# Altium integrated library Renesas Microcontroller H8S.IntLib: 670 symbols (part 37 of 70)
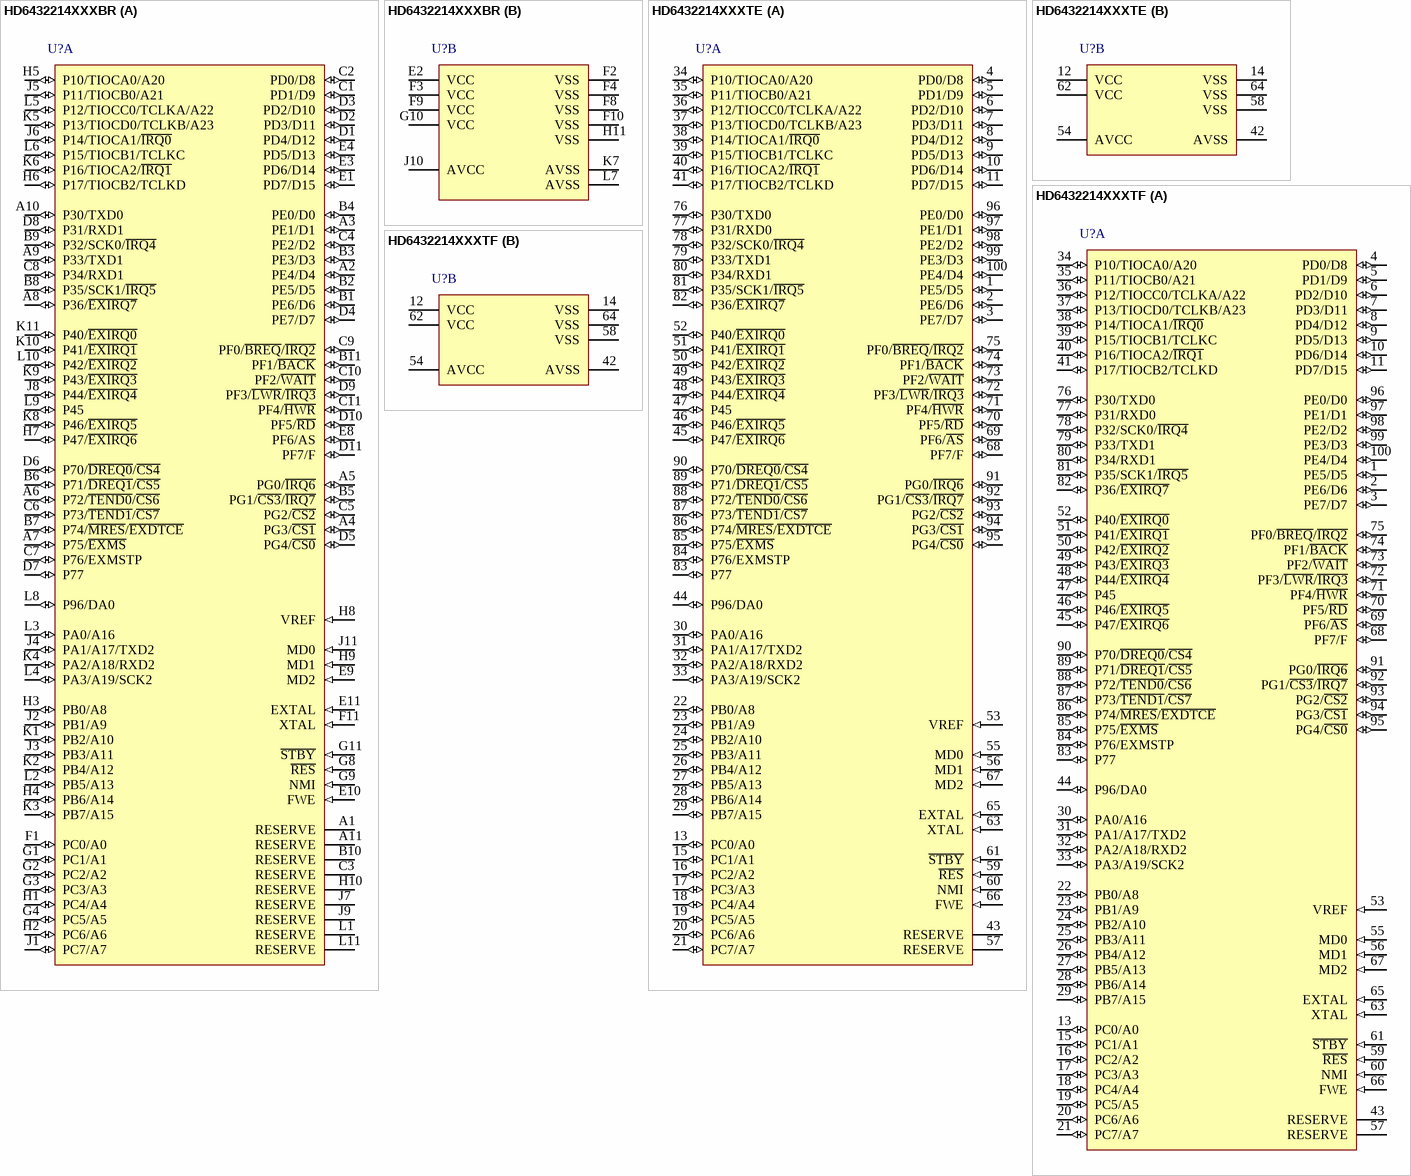
[diagram p263: symbols HD6432214XXXBR to HD6432214XXXTF]

## HD6432214XXXTE
designator U?
Mask ROM H8S/2200 Series, 2214 Group MCU, 128K ROM, 12K RAM, TFP-100B Pkg; Published: 28-Aug-2009; DatasheetVersion: Rev.4.00, Sep-2008; PackageVersion: Sep-2005; PackageReference: PTQP0100KA-A; Publisher: Altium Limited; PackageDescription: 100-Pin Plastic Thin Quad Flat Pack, 14 x 14 x 1.0 mm Body, 0.5 mm Pitch; Code_JEITA: P-TQFP100-14x14-0.50; ComponentLink1Description: Manufacturer Link; ComponentLink1URL: http://sg.renesas.com/fmwk.jsp?cnt=h8s_family_landing.jsp&fp=/products/mpumcu/h8s_family/; ComponentLink2Description: Datasheet; ComponentLink2URL: http://documentation.renesas.com/eng/products/mpumcu/rej09b0189_h8s2214.pdf; ComponentLink3Description: Packaging Specification; ComponentLink3URL: http://sg.renesas.com/media/products/common_info/package/pdf/ic/code/ptqp0100ka_a.pdf
footprint PTQP0100KA-A_N (Thin QFP, 100-Leads, Body 14x14mm, Pitch 0.5mm, IPC Medium Density)
footprint PTQP0100KA-A_L (Thin QFP, 100-Leads, Body 14x14mm, Pitch 0.5mm, IPC High Density)
footprint PTQP0100KA-A_M (Thin QFP, 100-Leads, Body 14x14mm, Pitch 0.5mm, IPC Low Density)
part A pins: 1 PE5/D5 (io), 2 PE6/D6 (io), 3 PE7/D7 (io), 4 PD0/D8 (io), 5 PD1/D9 (io), 6 PD2/D10 (io), 7 PD3/D11 (io), 8 PD4/D12 (io), 9 PD5/D13 (io), 10 PD6/D14 (io), 11 PD7/D15 (io), 13 PC0/A0 (io), 15 PC1/A1 (io), 16 PC2/A2 (io), 17 PC3/A3 (io), 18 PC4/A4 (io), 19 PC5/A5 (io), 20 PC6/A6 (io), 21 PC7/A7 (io), 22 PB0/A8 (io), 23 PB1/A9 (io), 24 PB2/A10 (io), 25 PB3/A11 (io), 26 PB4/A12 (io), 27 PB5/A13 (io), 28 PB6/A14 (io), 29 PB7/A15 (io), 30 PA0/A16 (io), 31 PA1/A17/TXD2 (io), 32 PA2/A18/RXD2 (io), 33 PA3/A19/SCK2 (io), 34 P10/TIOCA0/A20 (io), 35 P11/TIOCB0/A21 (io), 36 P12/TIOCC0/TCLKA/A22 (io), 37 P13/TIOCD0/TCLKB/A23 (io), 38 P14/TIOCA1/~{IRQ0} (io), 39 P15/TIOCB1/TCLKC (io), 40 P16/TIOCA2/~{IRQ1} (io), 41 P17/TIOCB2/TCLKD (io), 43 RESERVE, 44 P96/DA0 (io), 45 P47/~{EXIRQ6} (io), 46 P46/~{EXIRQ5} (io), 47 P45 (io), 48 P44/~{EXIRQ4} (io), 49 P43/~{EXIRQ3} (io), 50 P42/~{EXIRQ2} (io), 51 P41/~{EXIRQ1} (io), 52 P40/~{EXIRQ0} (io), 53 VREF (in), 55 MD0 (in), 56 MD1 (in), 57 RESERVE, 59 ~{RES} (in), 60 NMI (in), 61 ~{STBY} (in), 63 XTAL (in), 65 EXTAL (in), 66 FWE (in), 67 MD2 (in), 68 PF7/F (io), 69 PF6/~{AS} (io), 70 PF5/~{RD} (io), 71 PF4/~{HWR} (io), 72 PF3/~{LWR}/~{IRQ3} (io), 73 PF2/~{WAIT} (io), 74 PF1/~{BACK} (io), 75 PF0/~{BREQ}/~{IRQ2} (io), 76 P30/TXD0 (io), 77 P31/RXD0 (io), 78 P32/SCK0/~{IRQ4} (io), 79 P33/TXD1 (io), 80 P34/RXD1 (io), 81 P35/SCK1/~{IRQ5} (io), 82 P36/~{EXIRQ7} (io), 83 P77 (io), 84 P76/EXMSTP (io), 85 P75/~{EXMS} (io), 86 P74/~{MRES}/~{EXDTCE} (io), 87 P73/~{TEND1}/~{CS7} (io), 88 P72/~{TEND0}/~{CS6} (io), 89 P71/~{DREQ1}/~{CS5} (io), 90 P70/~{DREQ0}/~{CS4} (io), 91 PG0/~{IRQ6} (io), 92 PG1/~{CS3}/~{IRQ7} (io), 93 PG2/~{CS2} (io), 94 PG3/~{CS1} (io), 95 PG4/~{CS0} (io), 96 PE0/D0 (io), 97 PE1/D1 (io), 98 PE2/D2 (io), 99 PE3/D3 (io), 100 PE4/D4 (io)
part B pins: 12 VCC (power), 14 VSS (power), 42 AVSS (power), 54 AVCC (power), 58 VSS (power), 62 VCC (power), 64 VSS (power)

## HD6432214XXXTF
designator U?
Mask ROM H8S/2200 Series, 2214 Group MCU, 128K ROM, 12K RAM, TFP-100G Pkg; Published: 28-Aug-2009; DatasheetVersion: Rev.4.00, Sep-2008; PackageVersion: Sep-2005; PackageReference: PTQP0100LC-A; Publisher: Altium Limited; PackageDescription: 100-Pin Plastic Thin QFP, 12 x 12 x 1.0 mm Body, 0.4 mm Pitch; Code_JEITA: P-TQFP100-12x12-0.40; ComponentLink1Description: Manufacturer Link; ComponentLink1URL: http://sg.renesas.com/fmwk.jsp?cnt=h8s_family_landing.jsp&fp=/products/mpumcu/h8s_family/; ComponentLink2Description: Datasheet; ComponentLink2URL: http://documentation.renesas.com/eng/products/mpumcu/rej09b0189_h8s2214.pdf; ComponentLink3Description: Packaging Specification; ComponentLink3URL: http://sg.renesas.com/media/products/common_info/package/pdf/ic/code/ptqp0100lc_a.pdf
footprint PTQP0100LC-A_N (Thin QFP, 100-Leads, Body 12x12mm, Pitch 0.4mm, IPC Medium Density)
footprint PTQP0100LC-A_L (Thin QFP, 100-Leads, Body 12x12mm, Pitch 0.4mm, IPC High Density)
footprint PTQP0100LC-A_M (Thin QFP, 100-Leads, Body 12x12mm, Pitch 0.4mm, IPC Low Density)
part A pins: 1 PE5/D5 (io), 2 PE6/D6 (io), 3 PE7/D7 (io), 4 PD0/D8 (io), 5 PD1/D9 (io), 6 PD2/D10 (io), 7 PD3/D11 (io), 8 PD4/D12 (io), 9 PD5/D13 (io), 10 PD6/D14 (io), 11 PD7/D15 (io), 13 PC0/A0 (io), 15 PC1/A1 (io), 16 PC2/A2 (io), 17 PC3/A3 (io), 18 PC4/A4 (io), 19 PC5/A5 (io), 20 PC6/A6 (io), 21 PC7/A7 (io), 22 PB0/A8 (io), 23 PB1/A9 (io), 24 PB2/A10 (io), 25 PB3/A11 (io), 26 PB4/A12 (io), 27 PB5/A13 (io), 28 PB6/A14 (io), 29 PB7/A15 (io), 30 PA0/A16 (io), 31 PA1/A17/TXD2 (io), 32 PA2/A18/RXD2 (io), 33 PA3/A19/SCK2 (io), 34 P10/TIOCA0/A20 (io), 35 P11/TIOCB0/A21 (io), 36 P12/TIOCC0/TCLKA/A22 (io), 37 P13/TIOCD0/TCLKB/A23 (io), 38 P14/TIOCA1/~{IRQ0} (io), 39 P15/TIOCB1/TCLKC (io), 40 P16/TIOCA2/~{IRQ1} (io), 41 P17/TIOCB2/TCLKD (io), 43 RESERVE, 44 P96/DA0 (io), 45 P47/~{EXIRQ6} (io), 46 P46/~{EXIRQ5} (io), 47 P45 (io), 48 P44/~{EXIRQ4} (io), 49 P43/~{EXIRQ3} (io), 50 P42/~{EXIRQ2} (io), 51 P41/~{EXIRQ1} (io), 52 P40/~{EXIRQ0} (io), 53 VREF (in), 55 MD0 (in), 56 MD1 (in), 57 RESERVE, 59 ~{RES} (in), 60 NMI (in), 61 ~{STBY} (in), 63 XTAL (in), 65 EXTAL (in), 66 FWE (in), 67 MD2 (in), 68 PF7/F (io), 69 PF6/~{AS} (io), 70 PF5/~{RD} (io), 71 PF4/~{HWR} (io), 72 PF3/~{LWR}/~{IRQ3} (io), 73 PF2/~{WAIT} (io), 74 PF1/~{BACK} (io), 75 PF0/~{BREQ}/~{IRQ2} (io), 76 P30/TXD0 (io), 77 P31/RXD0 (io), 78 P32/SCK0/~{IRQ4} (io), 79 P33/TXD1 (io), 80 P34/RXD1 (io), 81 P35/SCK1/~{IRQ5} (io), 82 P36/~{EXIRQ7} (io), 83 P77 (io), 84 P76/EXMSTP (io), 85 P75/~{EXMS} (io), 86 P74/~{MRES}/~{EXDTCE} (io), 87 P73/~{TEND1}/~{CS7} (io), 88 P72/~{TEND0}/~{CS6} (io), 89 P71/~{DREQ1}/~{CS5} (io), 90 P70/~{DREQ0}/~{CS4} (io), 91 PG0/~{IRQ6} (io), 92 PG1/~{CS3}/~{IRQ7} (io), 93 PG2/~{CS2} (io), 94 PG3/~{CS1} (io), 95 PG4/~{CS0} (io), 96 PE0/D0 (io), 97 PE1/D1 (io), 98 PE2/D2 (io), 99 PE3/D3 (io), 100 PE4/D4 (io)
part B pins: 12 VCC (power), 14 VSS (power), 42 AVSS (power), 54 AVCC (power), 58 VSS (power), 62 VCC (power), 64 VSS (power)

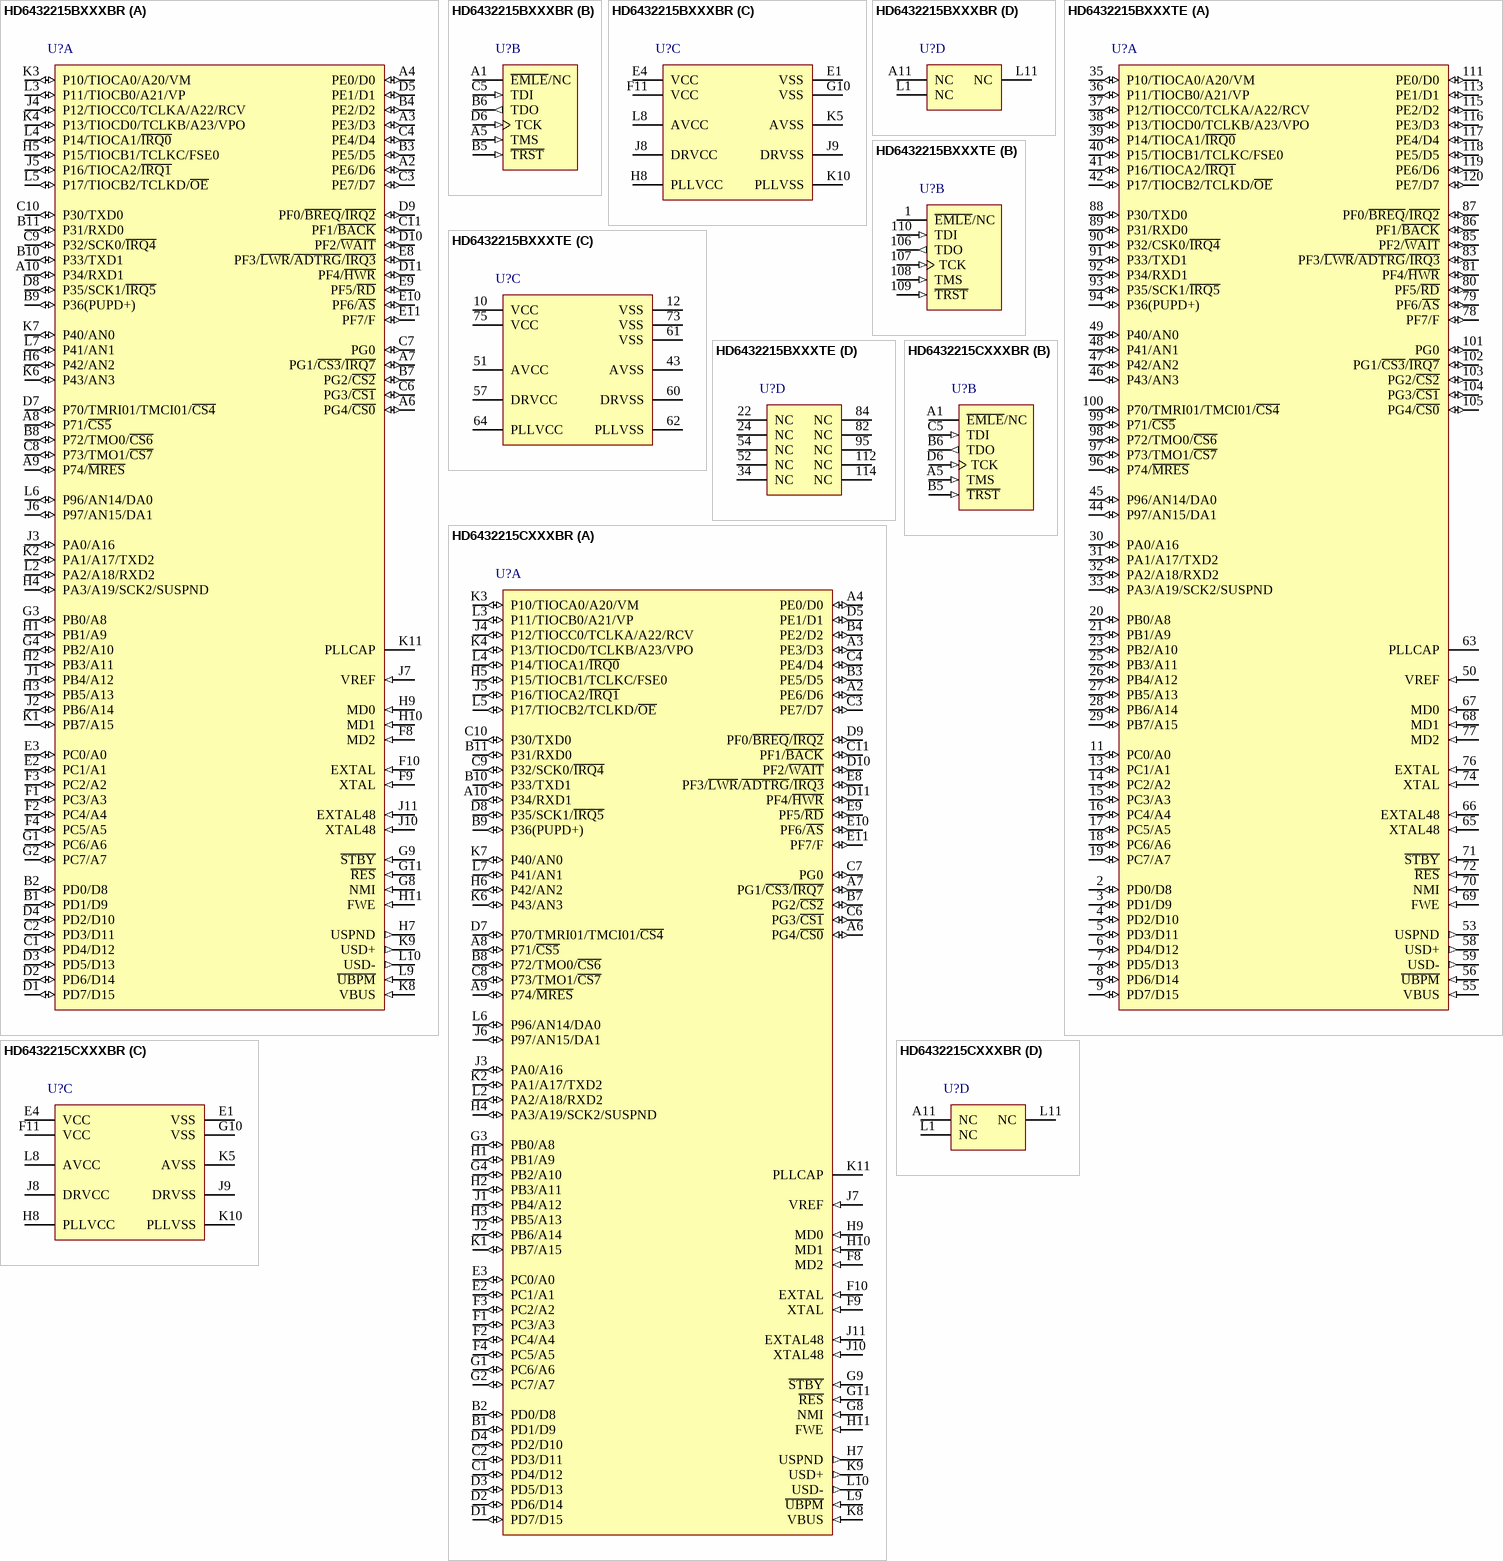
[diagram p127: symbols HD6432215BXXXBR to HD6432215CXXXBR]

## HD6432215BXXXBR
designator U?
Mask ROM H8S/2200 Series, 2215 Group MCU, 128K ROM, 16K RAM, BP-112 Pkg; Published: 28-Aug-2009; DatasheetVersion: Rev.8.00, Jan-2009; PackageVersion: Sep-2005; PackageReference: PLBG0112GA-A; Publisher: Altium Limited; PackageDescription: 112-Ball Plastic Low Profile Thin-Fine Pitch BGA, 10 x 10 mm Body, 0.8 mm Pitch; Code_JEITA: P-LFBGA112-10x10-0.80; ComponentLink1Description: Manufacturer Link; ComponentLink1URL: http://sg.renesas.com/fmwk.jsp?cnt=h8s_family_landing.jsp&fp=/products/mpumcu/h8s_family/; ComponentLink2Description: Datasheet; ComponentLink2URL: http://documentation.renesas.com/eng/products/mpumcu/rej09b0140_2215hm.pdf; ComponentLink3Description: Packaging Specification; ComponentLink3URL: http://sg.renesas.com/media/products/common_info/package/pdf/ic/code/plbg0112ga_a.pdf
footprint PLBG0112GA-A (BGA, 112-Leads, Body 10x10mm, Pitch 0.8mm)
part A pins: A2 PE6/D6 (io), A3 PE3/D3 (io), A4 PE0/D0 (io), A6 PG4/~{CS0} (io), A7 PG1/~{CS3}/~{IRQ7} (io), A8 P71/~{CS5} (io), A9 P74/~{MRES} (io), A10 P34/RXD1 (io), B1 PD1/D9 (io), B2 PD0/D8 (io), B3 PE5/D5 (io), B4 PE2/D2 (io), B7 PG2/~{CS2} (io), B8 P72/TMO0/~{CS6} (io), B9 P36(PUPD+) (io), B10 P33/TXD1 (io), B11 P31/RXD0 (io), C1 PD4/D12 (io), C2 PD3/D11 (io), C3 PE7/D7 (io), C4 PE4/D4 (io), C6 PG3/~{CS1} (io), C7 PG0 (io), C8 P73/TMO1/~{CS7} (io), C9 P32/SCK0/~{IRQ4} (io), C10 P30/TXD0 (io), C11 PF1/~{BACK} (io), D1 PD7/D15 (io), D2 PD6/D14 (io), D3 PD5/D13 (io), D4 PD2/D10 (io), D5 PE1/D1 (io), D7 P70/TMRI01/TMCI01/~{CS4} (io), D8 P35/SCK1/~{IRQ5} (io), D9 PF0/~{BREQ}/~{IRQ2} (io), D10 PF2/~{WAIT} (io), D11 PF4/~{HWR} (io), E2 PC1/A1 (io), E3 PC0/A0 (io), E8 PF3/~{LWR}/~{ADTRG}/~{IRQ3} (io), E9 PF5/~{RD} (io), E10 PF6/~{AS} (io), E11 PF7/F (io), F1 PC3/A3 (io), F2 PC4/A4 (io), F3 PC2/A2 (io), F4 PC5/A5 (io), F8 MD2 (in), F9 XTAL (in), F10 EXTAL (in), G1 PC6/A6 (io), G2 PC7/A7 (io), G3 PB0/A8 (io), G4 PB2/A10 (io), G8 NMI (in), G9 ~{STBY} (in), G11 ~{RES} (in), H1 PB1/A9 (io), H2 PB3/A11 (io), H3 PB5/A13 (io), H4 PA3/A19/SCK2/SUSPND (io), H5 P15/TIOCB1/TCLKC/FSE0 (io), H6 P42/AN2 (io), H7 USPND (out), H9 MD0 (in), H10 MD1 (in), H11 FWE (in), J1 PB4/A12 (io), J2 PB6/A14 (io), J3 PA0/A16 (io), J4 P12/TIOCC0/TCLKA/A22/RCV (io), J5 P16/TIOCA2/~{IRQ1} (io), J6 P97/AN15/DA1 (io), J7 VREF (in), J10 XTAL48 (in), J11 EXTAL48 (in), K1 PB7/A15 (io), K2 PA1/A17/TXD2 (io), K3 P10/TIOCA0/A20/VM (io), K4 P13/TIOCD0/TCLKB/A23/VPO (io), K6 P43/AN3 (io), K7 P40/AN0 (io), K8 VBUS (in), K9 USD+ (out), K11 PLLCAP, L2 PA2/A18/RXD2 (io), L3 P11/TIOCB0/A21/VP (io), L4 P14/TIOCA1/~{IRQ0} (io), L5 P17/TIOCB2/TCLKD/~{OE} (io), L6 P96/AN14/DA0 (io), L7 P41/AN1 (io), L9 ~{UBPM} (in), L10 USD- (out)
part B pins: A1 ~{EMLE}/NC, A5 TMS (in), B5 ~{TRST} (in), B6 TDO (out), C5 TDI (in), D6 TCK (in)
part C pins: E1 VSS (power), E4 VCC (power), F11 VCC (power), G10 VSS (power), H8 PLLVCC (power), J8 DRVCC (power), J9 DRVSS (power), K5 AVSS (power), K10 PLLVSS (power), L8 AVCC (power)
part D pins: A11 NC, L1 NC, L11 NC

## HD6432215BXXXTE
designator U?
Mask ROM H8S/2200 Series, 2215 Group MCU, 128K ROM, 16K RAM, TFP-120 Pkg; Published: 28-Aug-2009; DatasheetVersion: Rev.8.00, Jan-2009; PackageVersion: Sep-2005; PackageReference: PTQP0120LA-A; Publisher: Altium Limited; PackageDescription: 120-Pin Plastic Thin QFP, 14 x 14 x 1.0 mm Body, 0.4 mm Pitch; Code_JEITA: P-TQFP120-14x14-0.40; ComponentLink1Description: Manufacturer Link; ComponentLink1URL: http://sg.renesas.com/fmwk.jsp?cnt=h8s_family_landing.jsp&fp=/products/mpumcu/h8s_family/; ComponentLink2Description: Datasheet; ComponentLink2URL: http://documentation.renesas.com/eng/products/mpumcu/rej09b0140_2215hm.pdf; ComponentLink3Description: Packaging Specification; ComponentLink3URL: http://sg.renesas.com/media/products/common_info/package/pdf/ic/code/ptqp0120la_a.pdf
footprint PTQP0120LA-A_N (Thin QFP, 120-Leads, Body 14x14mm, Pitch 0.4mm, IPC Medium Density)
footprint PTQP0120LA-A_L (Thin QFP, 120-Leads, Body 14x14mm, Pitch 0.4mm, IPC High Density)
footprint PTQP0120LA-A_M (Thin QFP, 120-Leads, Body 14x14mm, Pitch 0.4mm, IPC Low Density)
part A pins: 2 PD0/D8 (io), 3 PD1/D9 (io), 4 PD2/D10 (io), 5 PD3/D11 (io), 6 PD4/D12 (io), 7 PD5/D13 (io), 8 PD6/D14 (io), 9 PD7/D15 (io), 11 PC0/A0 (io), 13 PC1/A1 (io), 14 PC2/A2 (io), 15 PC3/A3 (io), 16 PC4/A4 (io), 17 PC5/A5 (io), 18 PC6/A6 (io), 19 PC7/A7 (io), 20 PB0/A8 (io), 21 PB1/A9 (io), 23 PB2/A10 (io), 25 PB3/A11 (io), 26 PB4/A12 (io), 27 PB5/A13 (io), 28 PB6/A14 (io), 29 PB7/A15 (io), 30 PA0/A16 (io), 31 PA1/A17/TXD2 (io), 32 PA2/A18/RXD2 (io), 33 PA3/A19/SCK2/SUSPND (io), 35 P10/TIOCA0/A20/VM (io), 36 P11/TIOCB0/A21/VP (io), 37 P12/TIOCC0/TCLKA/A22/RCV (io), 38 P13/TIOCD0/TCLKB/A23/VPO (io), 39 P14/TIOCA1/~{IRQ0} (io), 40 P15/TIOCB1/TCLKC/FSE0 (io), 41 P16/TIOCA2/~{IRQ1} (io), 42 P17/TIOCB2/TCLKD/~{OE} (io), 44 P97/AN15/DA1 (io), 45 P96/AN14/DA0 (io), 46 P43/AN3 (io), 47 P42/AN2 (io), 48 P41/AN1 (io), 49 P40/AN0 (io), 50 VREF (in), 53 USPND (out), 55 VBUS (in), 56 ~{UBPM} (in), 58 USD+ (out), 59 USD- (out), 63 PLLCAP, 65 XTAL48 (in), 66 EXTAL48 (in), 67 MD0 (in), 68 MD1 (in), 69 FWE (in), 70 NMI (in), 71 ~{STBY} (in), 72 ~{RES} (in), 74 XTAL (in), 76 EXTAL (in), 77 MD2 (in), 78 PF7/F (io), 79 PF6/~{AS} (io), 80 PF5/~{RD} (io), 81 PF4/~{HWR} (io), 83 PF3/~{LWR}/~{ADTRG}/~{IRQ3} (io), 85 PF2/~{WAIT} (io), 86 PF1/~{BACK} (io), 87 PF0/~{BREQ}/~{IRQ2} (io), 88 P30/TXD0 (io), 89 P31/RXD0 (io), 90 P32/CSK0/~{IRQ4} (io), 91 P33/TXD1 (io), 92 P34/RXD1 (io), 93 P35/SCK1/~{IRQ5} (io), 94 P36(PUPD+) (io), 96 P74/~{MRES} (io), 97 P73/TMO1/~{CS7} (io), 98 P72/TMO0/~{CS6} (io), 99 P71/~{CS5} (io), 100 P70/TMRI01/TMCI01/~{CS4} (io), 101 PG0 (io), 102 PG1/~{CS3}/~{IRQ7} (io), 103 PG2/~{CS2} (io), 104 PG3/~{CS1} (io), 105 PG4/~{CS0} (io), 111 PE0/D0 (io), 113 PE1/D1 (io), 115 PE2/D2 (io), 116 PE3/D3 (io), 117 PE4/D4 (io), 118 PE5/D5 (io), 119 PE6/D6 (io), 120 PE7/D7 (io)
part B pins: 1 ~{EMLE}/NC, 106 TDO (out), 107 TCK (in), 108 TMS (in), 109 ~{TRST} (in), 110 TDI (in)
part C pins: 10 VCC (power), 12 VSS (power), 43 AVSS (power), 51 AVCC (power), 57 DRVCC (power), 60 DRVSS (power), 61 VSS (power), 62 PLLVSS (power), 64 PLLVCC (power), 73 VSS (power), 75 VCC (power)
part D pins: 22 NC, 24 NC, 34 NC, 52 NC, 54 NC, 82 NC, 84 NC, 95 NC, 112 NC, 114 NC

## HD6432215CXXXBR
designator U?
Mask ROM H8S/2200 Series, 2215 Group MCU, 64K ROM, 8K RAM, BP-112 Pkg; Published: 28-Aug-2009; DatasheetVersion: Rev.8.00, Jan-2009; PackageVersion: Sep-2005; PackageReference: PLBG0112GA-A; Publisher: Altium Limited; PackageDescription: 112-Ball Plastic Low Profile Thin-Fine Pitch BGA, 10 x 10 mm Body, 0.8 mm Pitch; Code_JEITA: P-LFBGA112-10x10-0.80; ComponentLink1Description: Manufacturer Link; ComponentLink1URL: http://sg.renesas.com/fmwk.jsp?cnt=h8s_family_landing.jsp&fp=/products/mpumcu/h8s_family/; ComponentLink2Description: Datasheet; ComponentLink2URL: http://documentation.renesas.com/eng/products/mpumcu/rej09b0140_2215hm.pdf; ComponentLink3Description: Packaging Specification; ComponentLink3URL: http://sg.renesas.com/media/products/common_info/package/pdf/ic/code/plbg0112ga_a.pdf
footprint PLBG0112GA-A (BGA, 112-Leads, Body 10x10mm, Pitch 0.8mm)
part A pins: A2 PE6/D6 (io), A3 PE3/D3 (io), A4 PE0/D0 (io), A6 PG4/~{CS0} (io), A7 PG1/~{CS3}/~{IRQ7} (io), A8 P71/~{CS5} (io), A9 P74/~{MRES} (io), A10 P34/RXD1 (io), B1 PD1/D9 (io), B2 PD0/D8 (io), B3 PE5/D5 (io), B4 PE2/D2 (io), B7 PG2/~{CS2} (io), B8 P72/TMO0/~{CS6} (io), B9 P36(PUPD+) (io), B10 P33/TXD1 (io), B11 P31/RXD0 (io), C1 PD4/D12 (io), C2 PD3/D11 (io), C3 PE7/D7 (io), C4 PE4/D4 (io), C6 PG3/~{CS1} (io), C7 PG0 (io), C8 P73/TMO1/~{CS7} (io), C9 P32/SCK0/~{IRQ4} (io), C10 P30/TXD0 (io), C11 PF1/~{BACK} (io), D1 PD7/D15 (io), D2 PD6/D14 (io), D3 PD5/D13 (io), D4 PD2/D10 (io), D5 PE1/D1 (io), D7 P70/TMRI01/TMCI01/~{CS4} (io), D8 P35/SCK1/~{IRQ5} (io), D9 PF0/~{BREQ}/~{IRQ2} (io), D10 PF2/~{WAIT} (io), D11 PF4/~{HWR} (io), E2 PC1/A1 (io), E3 PC0/A0 (io), E8 PF3/~{LWR}/~{ADTRG}/~{IRQ3} (io), E9 PF5/~{RD} (io), E10 PF6/~{AS} (io), E11 PF7/F (io), F1 PC3/A3 (io), F2 PC4/A4 (io), F3 PC2/A2 (io), F4 PC5/A5 (io), F8 MD2 (in), F9 XTAL (in), F10 EXTAL (in), G1 PC6/A6 (io), G2 PC7/A7 (io), G3 PB0/A8 (io), G4 PB2/A10 (io), G8 NMI (in), G9 ~{STBY} (in), G11 ~{RES} (in), H1 PB1/A9 (io), H2 PB3/A11 (io), H3 PB5/A13 (io), H4 PA3/A19/SCK2/SUSPND (io), H5 P15/TIOCB1/TCLKC/FSE0 (io), H6 P42/AN2 (io), H7 USPND (out), H9 MD0 (in), H10 MD1 (in), H11 FWE (in), J1 PB4/A12 (io), J2 PB6/A14 (io), J3 PA0/A16 (io), J4 P12/TIOCC0/TCLKA/A22/RCV (io), J5 P16/TIOCA2/~{IRQ1} (io), J6 P97/AN15/DA1 (io), J7 VREF (in), J10 XTAL48 (in), J11 EXTAL48 (in), K1 PB7/A15 (io), K2 PA1/A17/TXD2 (io), K3 P10/TIOCA0/A20/VM (io), K4 P13/TIOCD0/TCLKB/A23/VPO (io), K6 P43/AN3 (io), K7 P40/AN0 (io), K8 VBUS (in), K9 USD+ (out), K11 PLLCAP, L2 PA2/A18/RXD2 (io), L3 P11/TIOCB0/A21/VP (io), L4 P14/TIOCA1/~{IRQ0} (io), L5 P17/TIOCB2/TCLKD/~{OE} (io), L6 P96/AN14/DA0 (io), L7 P41/AN1 (io), L9 ~{UBPM} (in), L10 USD- (out)
part B pins: A1 ~{EMLE}/NC, A5 TMS (in), B5 ~{TRST} (in), B6 TDO (out), C5 TDI (in), D6 TCK (in)
part C pins: E1 VSS (power), E4 VCC (power), F11 VCC (power), G10 VSS (power), H8 PLLVCC (power), J8 DRVCC (power), J9 DRVSS (power), K5 AVSS (power), K10 PLLVSS (power), L8 AVCC (power)
part D pins: A11 NC, L1 NC, L11 NC

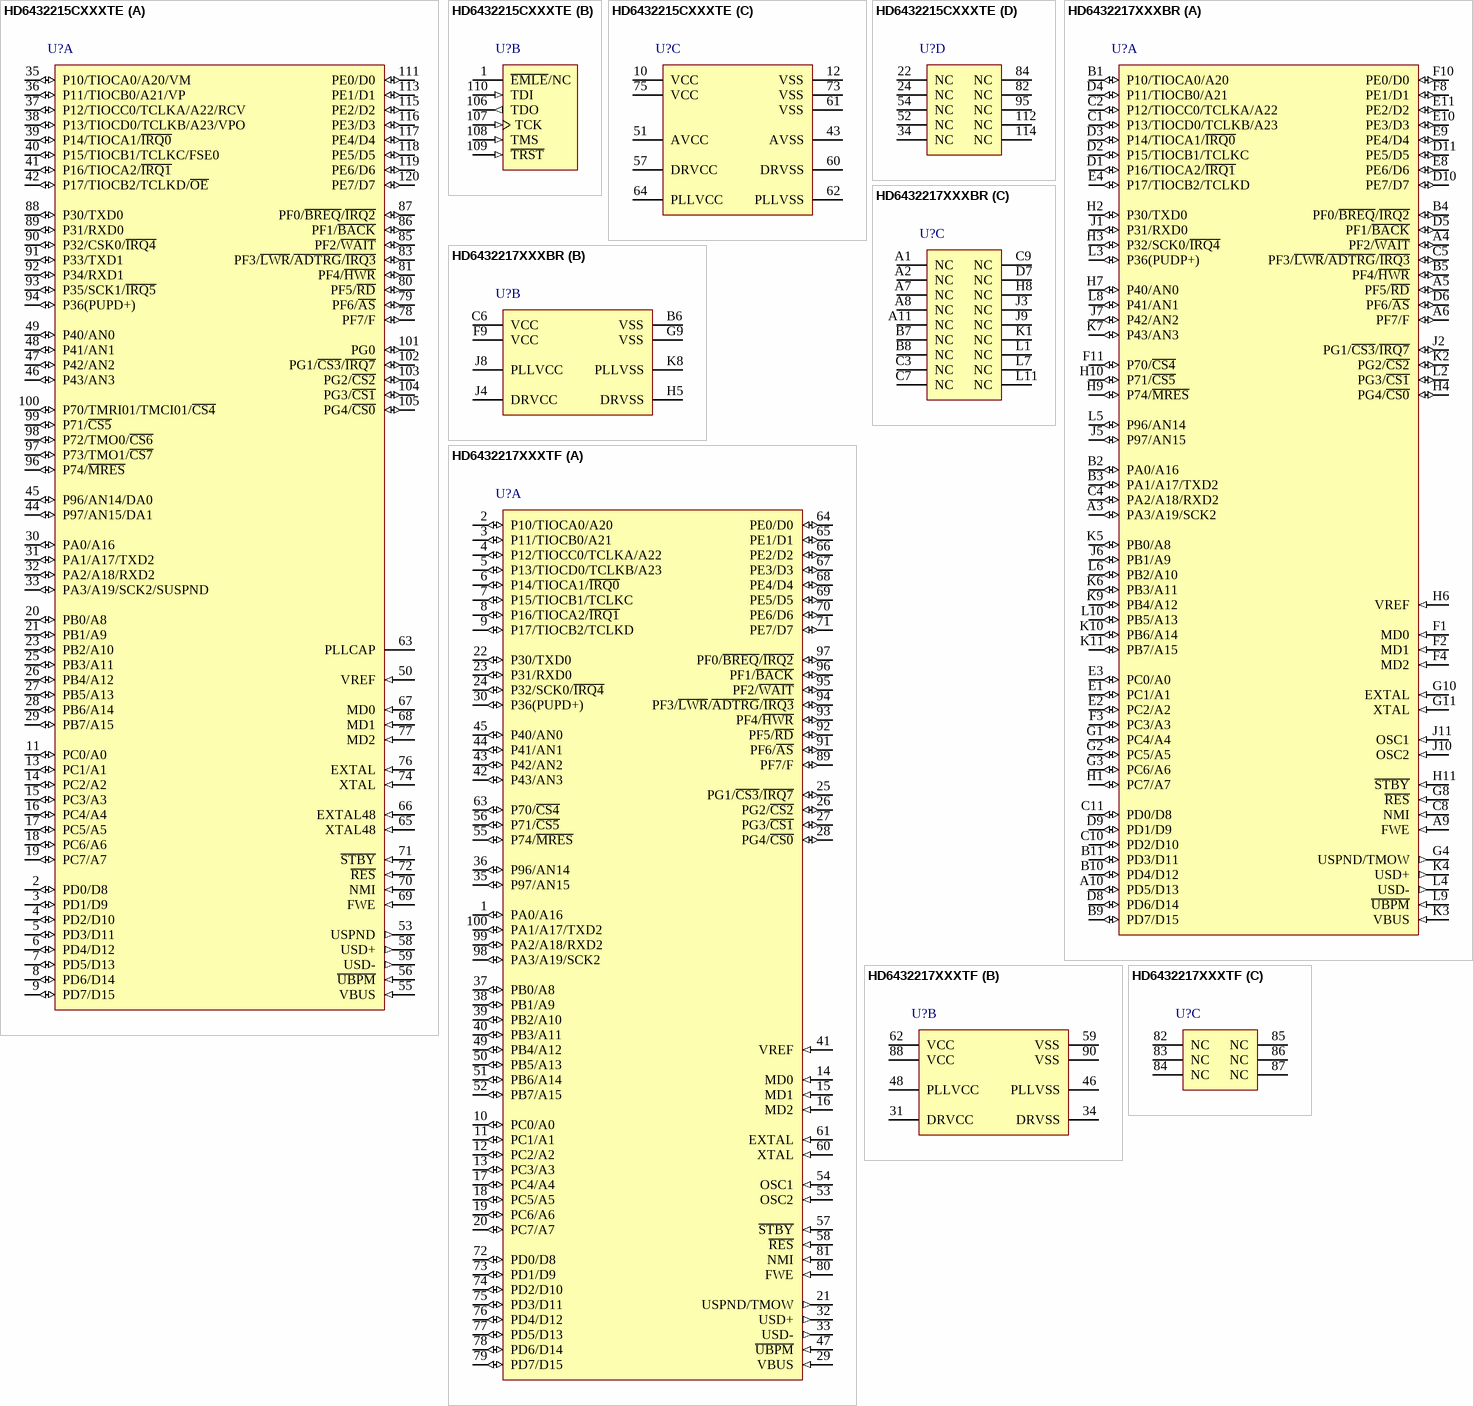
[diagram p128: symbols HD6432215CXXXTE to HD6432217XXXTF]

## HD6432215CXXXTE
designator U?
Mask ROM H8S/2200 Series, 2215 Group MCU, 64K ROM, 8K RAM, TFP-120 Pkg; Published: 28-Aug-2009; DatasheetVersion: Rev.8.00, Jan-2009; PackageVersion: Sep-2005; PackageReference: PTQP0120LA-A; Publisher: Altium Limited; PackageDescription: 120-Pin Plastic Thin QFP, 14 x 14 x 1.0 mm Body, 0.4 mm Pitch; Code_JEITA: P-TQFP120-14x14-0.40; ComponentLink1Description: Manufacturer Link; ComponentLink1URL: http://sg.renesas.com/fmwk.jsp?cnt=h8s_family_landing.jsp&fp=/products/mpumcu/h8s_family/; ComponentLink2Description: Datasheet; ComponentLink2URL: http://documentation.renesas.com/eng/products/mpumcu/rej09b0140_2215hm.pdf; ComponentLink3Description: Packaging Specification; ComponentLink3URL: http://sg.renesas.com/media/products/common_info/package/pdf/ic/code/ptqp0120la_a.pdf
footprint PTQP0120LA-A_N (Thin QFP, 120-Leads, Body 14x14mm, Pitch 0.4mm, IPC Medium Density)
footprint PTQP0120LA-A_L (Thin QFP, 120-Leads, Body 14x14mm, Pitch 0.4mm, IPC High Density)
footprint PTQP0120LA-A_M (Thin QFP, 120-Leads, Body 14x14mm, Pitch 0.4mm, IPC Low Density)
part A pins: 2 PD0/D8 (io), 3 PD1/D9 (io), 4 PD2/D10 (io), 5 PD3/D11 (io), 6 PD4/D12 (io), 7 PD5/D13 (io), 8 PD6/D14 (io), 9 PD7/D15 (io), 11 PC0/A0 (io), 13 PC1/A1 (io), 14 PC2/A2 (io), 15 PC3/A3 (io), 16 PC4/A4 (io), 17 PC5/A5 (io), 18 PC6/A6 (io), 19 PC7/A7 (io), 20 PB0/A8 (io), 21 PB1/A9 (io), 23 PB2/A10 (io), 25 PB3/A11 (io), 26 PB4/A12 (io), 27 PB5/A13 (io), 28 PB6/A14 (io), 29 PB7/A15 (io), 30 PA0/A16 (io), 31 PA1/A17/TXD2 (io), 32 PA2/A18/RXD2 (io), 33 PA3/A19/SCK2/SUSPND (io), 35 P10/TIOCA0/A20/VM (io), 36 P11/TIOCB0/A21/VP (io), 37 P12/TIOCC0/TCLKA/A22/RCV (io), 38 P13/TIOCD0/TCLKB/A23/VPO (io), 39 P14/TIOCA1/~{IRQ0} (io), 40 P15/TIOCB1/TCLKC/FSE0 (io), 41 P16/TIOCA2/~{IRQ1} (io), 42 P17/TIOCB2/TCLKD/~{OE} (io), 44 P97/AN15/DA1 (io), 45 P96/AN14/DA0 (io), 46 P43/AN3 (io), 47 P42/AN2 (io), 48 P41/AN1 (io), 49 P40/AN0 (io), 50 VREF (in), 53 USPND (out), 55 VBUS (in), 56 ~{UBPM} (in), 58 USD+ (out), 59 USD- (out), 63 PLLCAP, 65 XTAL48 (in), 66 EXTAL48 (in), 67 MD0 (in), 68 MD1 (in), 69 FWE (in), 70 NMI (in), 71 ~{STBY} (in), 72 ~{RES} (in), 74 XTAL (in), 76 EXTAL (in), 77 MD2 (in), 78 PF7/F (io), 79 PF6/~{AS} (io), 80 PF5/~{RD} (io), 81 PF4/~{HWR} (io), 83 PF3/~{LWR}/~{ADTRG}/~{IRQ3} (io), 85 PF2/~{WAIT} (io), 86 PF1/~{BACK} (io), 87 PF0/~{BREQ}/~{IRQ2} (io), 88 P30/TXD0 (io), 89 P31/RXD0 (io), 90 P32/CSK0/~{IRQ4} (io), 91 P33/TXD1 (io), 92 P34/RXD1 (io), 93 P35/SCK1/~{IRQ5} (io), 94 P36(PUPD+) (io), 96 P74/~{MRES} (io), 97 P73/TMO1/~{CS7} (io), 98 P72/TMO0/~{CS6} (io), 99 P71/~{CS5} (io), 100 P70/TMRI01/TMCI01/~{CS4} (io), 101 PG0 (io), 102 PG1/~{CS3}/~{IRQ7} (io), 103 PG2/~{CS2} (io), 104 PG3/~{CS1} (io), 105 PG4/~{CS0} (io), 111 PE0/D0 (io), 113 PE1/D1 (io), 115 PE2/D2 (io), 116 PE3/D3 (io), 117 PE4/D4 (io), 118 PE5/D5 (io), 119 PE6/D6 (io), 120 PE7/D7 (io)
part B pins: 1 ~{EMLE}/NC, 106 TDO (out), 107 TCK (in), 108 TMS (in), 109 ~{TRST} (in), 110 TDI (in)
part C pins: 10 VCC (power), 12 VSS (power), 43 AVSS (power), 51 AVCC (power), 57 DRVCC (power), 60 DRVSS (power), 61 VSS (power), 62 PLLVSS (power), 64 PLLVCC (power), 73 VSS (power), 75 VCC (power)
part D pins: 22 NC, 24 NC, 34 NC, 52 NC, 54 NC, 82 NC, 84 NC, 95 NC, 112 NC, 114 NC

## HD6432217XXXBR
designator U?
Mask ROM H8S/2200 Series, 2218 Group MCU, 64K ROM, 8K RAM, BP-112 Pkg; Published: 28-Aug-2009; DatasheetVersion: Rev.7.00, Dec-2008; PackageVersion: Sep-2005; PackageReference: PLBG0112GA-A; Publisher: Altium Limited; PackageDescription: 112-Ball Plastic Low Profile Thin-Fine Pitch BGA, 10 x 10 mm Body, 0.8 mm Pitch; Code_JEITA: P-LFBGA112-10x10-0.80; ComponentLink1Description: Manufacturer Link; ComponentLink1URL: http://sg.renesas.com/fmwk.jsp?cnt=h8s_family_landing.jsp&fp=/products/mpumcu/h8s_family/; ComponentLink2Description: Datasheet; ComponentLink2URL: http://documentation.renesas.com/eng/products/mpumcu/rej09b0074_h8s2212.pdf; ComponentLink3Description: Packaging Specification; ComponentLink3URL: http://sg.renesas.com/media/products/common_info/package/pdf/ic/code/plbg0112ga_a.pdf
footprint PLBG0112GA-A (BGA, 112-Leads, Body 10x10mm, Pitch 0.8mm)
part A pins: A3 PA3/A19/SCK2 (io), A4 PF2/~{WAIT} (io), A5 PF5/~{RD} (io), A6 PF7/F (io), A9 FWE (in), A10 PD5/D13 (io), B1 P10/TIOCA0/A20 (io), B2 PA0/A16 (io), B3 PA1/A17/TXD2 (io), B4 PF0/~{BREQ}/~{IRQ2} (io), B5 PF4/~{HWR} (io), B9 PD7/D15 (io), B10 PD4/D12 (io), B11 PD3/D11 (io), C1 P13/TIOCD0/TCLKB/A23 (io), C2 P12/TIOCC0/TCLKA/A22 (io), C4 PA2/A18/RXD2 (io), C5 PF3/~{LWR}/~{ADTRG}/~{IRQ3} (io), C8 NMI (in), C10 PD2/D10 (io), C11 PD0/D8 (io), D1 P16/TIOCA2/~{IRQ1} (io), D2 P15/TIOCB1/TCLKC (io), D3 P14/TIOCA1/~{IRQ0} (io), D4 P11/TIOCB0/A21 (io), D5 PF1/~{BACK} (io), D6 PF6/~{AS} (io), D8 PD6/D14 (io), D9 PD1/D9 (io), D10 PE7/D7 (io), D11 PE5/D5 (io), E1 PC1/A1 (io), E2 PC2/A2 (io), E3 PC0/A0 (io), E4 P17/TIOCB2/TCLKD (io), E8 PE6/D6 (io), E9 PE4/D4 (io), E10 PE3/D3 (io), E11 PE2/D2 (io), F1 MD0 (in), F2 MD1 (in), F3 PC3/A3 (io), F4 MD2 (in), F8 PE1/D1 (io), F10 PE0/D0 (io), F11 P70/~{CS4} (io), G1 PC4/A4 (io), G2 PC5/A5 (io), G3 PC6/A6 (io), G4 USPND/TMOW (out), G8 ~{RES} (in), G10 EXTAL (in), G11 XTAL (in), H1 PC7/A7 (io), H2 P30/TXD0 (io), H3 P32/SCK0/~{IRQ4} (io), H4 PG4/~{CS0} (io), H6 VREF (in), H7 P40/AN0 (io), H9 P74/~{MRES} (io), H10 P71/~{CS5} (io), H11 ~{STBY} (in), J1 P31/RXD0 (io), J2 PG1/~{CS3}/~{IRQ7} (io), J5 P97/AN15 (io), J6 PB1/A9 (io), J7 P42/AN2 (io), J10 OSC2 (in), J11 OSC1 (in), K2 PG2/~{CS2} (io), K3 VBUS (in), K4 USD+ (out), K5 PB0/A8 (io), K6 PB3/A11 (io), K7 P43/AN3 (io), K9 PB4/A12 (io), K10 PB6/A14 (io), K11 PB7/A15 (io), L2 PG3/~{CS1} (io), L3 P36(PUDP+) (io), L4 USD- (out), L5 P96/AN14 (io), L6 PB2/A10 (io), L8 P41/AN1 (io), L9 ~{UBPM} (in), L10 PB5/A13 (io)
part B pins: B6 VSS (power), C6 VCC (power), F9 VCC (power), G9 VSS (power), H5 DRVSS (power), J4 DRVCC (power), J8 PLLVCC (power), K8 PLLVSS (power)
part C pins: A1 NC, A2 NC, A7 NC, A8 NC, A11 NC, B7 NC, B8 NC, C3 NC, C7 NC, C9 NC, D7 NC, H8 NC, J3 NC, J9 NC, K1 NC, L1 NC, L7 NC, L11 NC

## HD6432217XXXTF
designator U?
Mask ROM H8S/2200 Series, 2218 Group MCU, 64K ROM, 8K RAM, TFP-100G Pkg; Published: 28-Aug-2009; DatasheetVersion: Rev.7.00, Dec-2008; PackageVersion: Sep-2005; PackageReference: PTQP0100LC-A; Publisher: Altium Limited; PackageDescription: 100-Pin Plastic Thin QFP, 12 x 12 x 1.0 mm Body, 0.4 mm Pitch; Code_JEITA: P-TQFP100-12x12-0.40; ComponentLink1Description: Manufacturer Link; ComponentLink1URL: http://sg.renesas.com/fmwk.jsp?cnt=h8s_family_landing.jsp&fp=/products/mpumcu/h8s_family/; ComponentLink2Description: Datasheet; ComponentLink2URL: http://documentation.renesas.com/eng/products/mpumcu/rej09b0074_h8s2212.pdf; ComponentLink3Description: Packaging Specification; ComponentLink3URL: http://sg.renesas.com/media/products/common_info/package/pdf/ic/code/ptqp0100lc_a.pdf
footprint PTQP0100LC-A_N (Thin QFP, 100-Leads, Body 12x12mm, Pitch 0.4mm, IPC Medium Density)
footprint PTQP0100LC-A_L (Thin QFP, 100-Leads, Body 12x12mm, Pitch 0.4mm, IPC High Density)
footprint PTQP0100LC-A_M (Thin QFP, 100-Leads, Body 12x12mm, Pitch 0.4mm, IPC Low Density)
part A pins: 1 PA0/A16 (io), 2 P10/TIOCA0/A20 (io), 3 P11/TIOCB0/A21 (io), 4 P12/TIOCC0/TCLKA/A22 (io), 5 P13/TIOCD0/TCLKB/A23 (io), 6 P14/TIOCA1/~{IRQ0} (io), 7 P15/TIOCB1/TCLKC (io), 8 P16/TIOCA2/~{IRQ1} (io), 9 P17/TIOCB2/TCLKD (io), 10 PC0/A0 (io), 11 PC1/A1 (io), 12 PC2/A2 (io), 13 PC3/A3 (io), 14 MD0 (in), 15 MD1 (in), 16 MD2 (in), 17 PC4/A4 (io), 18 PC5/A5 (io), 19 PC6/A6 (io), 20 PC7/A7 (io), 21 USPND/TMOW (out), 22 P30/TXD0 (io), 23 P31/RXD0 (io), 24 P32/SCK0/~{IRQ4} (io), 25 PG1/~{CS3}/~{IRQ7} (io), 26 PG2/~{CS2} (io), 27 PG3/~{CS1} (io), 28 PG4/~{CS0} (io), 29 VBUS (in), 30 P36(PUPD+) (io), 32 USD+ (out), 33 USD- (out), 35 P97/AN15 (io), 36 P96/AN14 (io), 37 PB0/A8 (io), 38 PB1/A9 (io), 39 PB2/A10 (io), 40 PB3/A11 (io), 41 VREF (in), 42 P43/AN3 (io), 43 P42/AN2 (io), 44 P41/AN1 (io), 45 P40/AN0 (io), 47 ~{UBPM} (in), 49 PB4/A12 (io), 50 PB5/A13 (io), 51 PB6/A14 (io), 52 PB7/A15 (io), 53 OSC2 (in), 54 OSC1 (in), 55 P74/~{MRES} (io), 56 P71/~{CS5} (io), 57 ~{STBY} (in), 58 ~{RES} (in), 60 XTAL (in), 61 EXTAL (in), 63 P70/~{CS4} (io), 64 PE0/D0 (io), 65 PE1/D1 (io), 66 PE2/D2 (io), 67 PE3/D3 (io), 68 PE4/D4 (io), 69 PE5/D5 (io), 70 PE6/D6 (io), 71 PE7/D7 (io), 72 PD0/D8 (io), 73 PD1/D9 (io), 74 PD2/D10 (io), 75 PD3/D11 (io), 76 PD4/D12 (io), 77 PD5/D13 (io), 78 PD6/D14 (io), 79 PD7/D15 (io), 80 FWE (in), 81 NMI (in), 89 PF7/F (io), 91 PF6/~{AS} (io), 92 PF5/~{RD} (io), 93 PF4/~{HWR} (io), 94 PF3/~{LWR}/~{ADTRG}/~{IRQ3} (io), 95 PF2/~{WAIT} (io), 96 PF1/~{BACK} (io), 97 PF0/~{BREQ}/~{IRQ2} (io), 98 PA3/A19/SCK2 (io), 99 PA2/A18/RXD2 (io), 100 PA1/A17/TXD2 (io)
part B pins: 31 DRVCC (power), 34 DRVSS (power), 46 PLLVSS (power), 48 PLLVCC (power), 59 VSS (power), 62 VCC (power), 88 VCC (power), 90 VSS (power)
part C pins: 82 NC, 83 NC, 84 NC, 85 NC, 86 NC, 87 NC

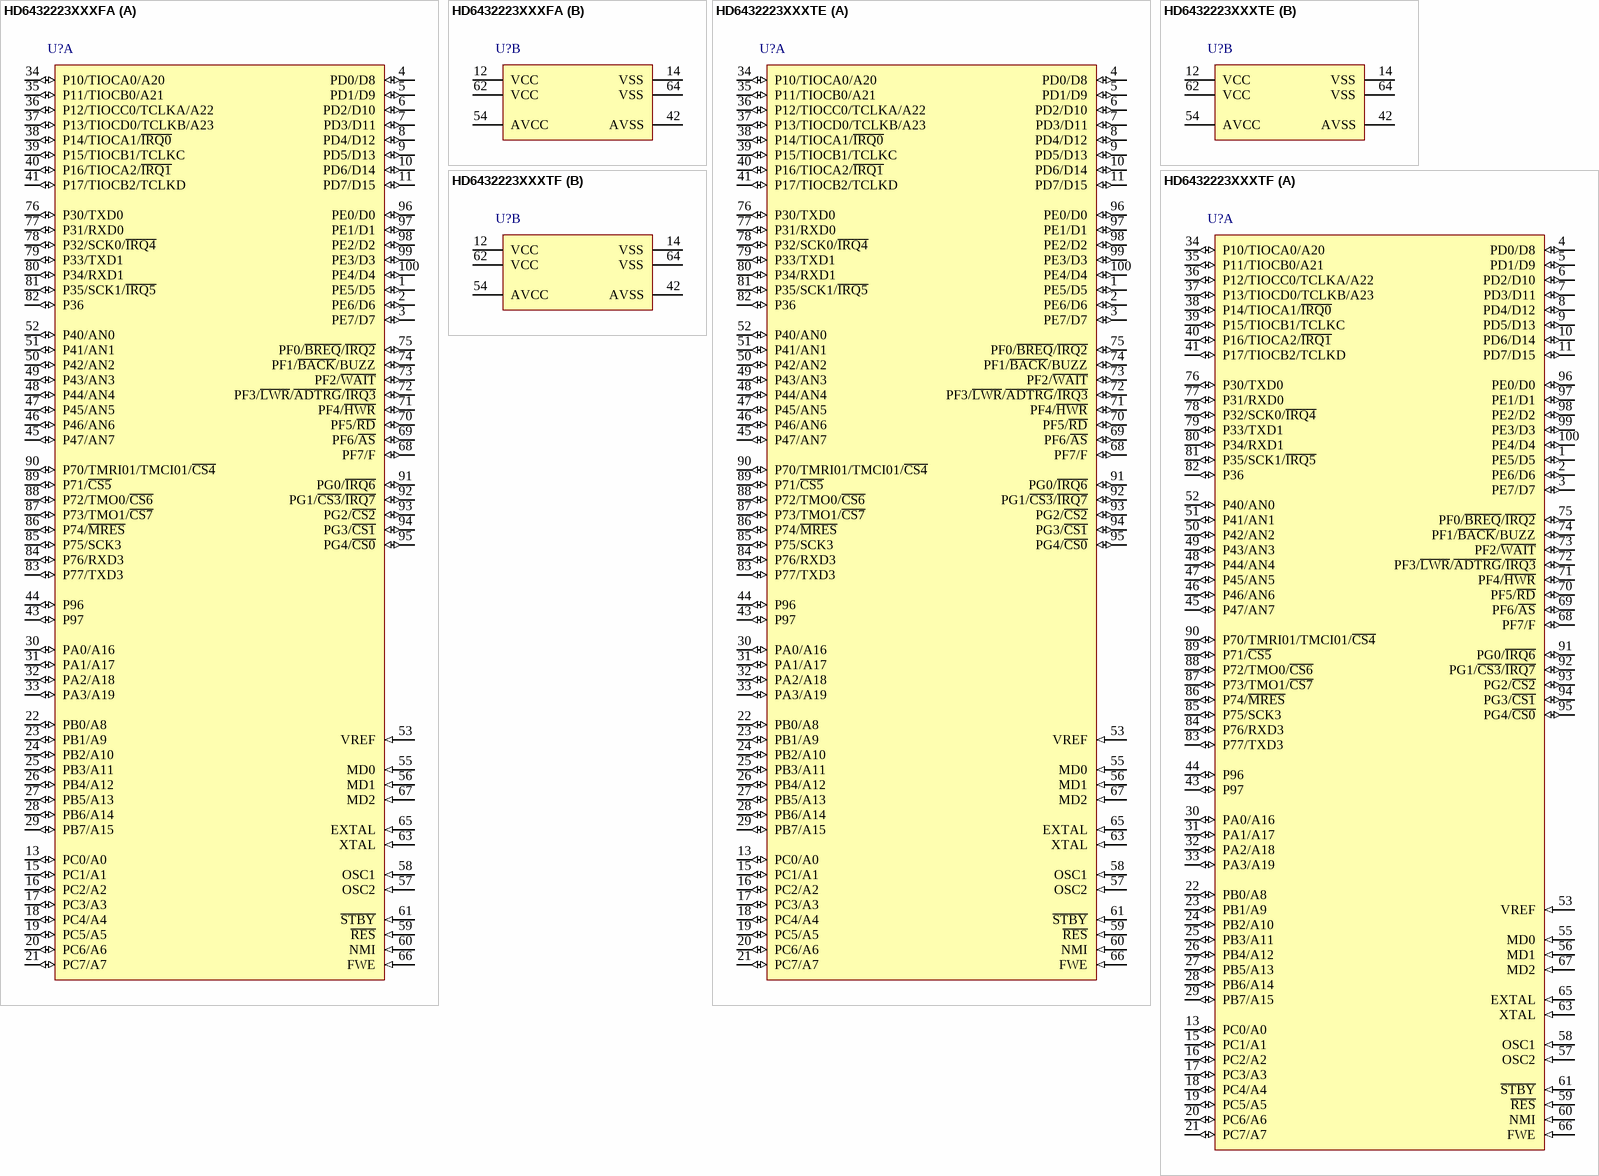
[diagram p129: symbols HD6432223XXXFA to HD6432223XXXTF]

## HD6432223XXXFA
designator U?
Mask ROM H8S/2200 Series, 2227 Group MCU, 64K ROM, 4K RAM, FP-100B Pkg; Published: 28-Aug-2009; DatasheetVersion: Rev.5.00, Aug-2006; PackageVersion: Sep-2009; PackageReference: PRQP0100KA-A; Publisher: Altium Limited; PackageDescription: 100-Pin Plastic Quad Flat Pack, 14 x 14 x 2.7 mm Body, 0.5 mm Pitch; Code_JEITA: P-QFP100-14x14-0.50; ComponentLink1Description: Manufacturer Link; ComponentLink1URL: http://sg.renesas.com/fmwk.jsp?cnt=h8s_family_landing.jsp&fp=/products/mpumcu/h8s_family/; ComponentLink2Description: Datasheet; ComponentLink2URL: http://documentation.renesas.com/eng/products/mpumcu/rej09b0054_h8s2239.pdf; ComponentLink3Description: Packaging Specification; ComponentLink3URL: http://sg.renesas.com/media/products/common_info/package/pdf/ic/code/prqp0100ka_a.pdf
footprint PRQP0100KA-A_N (Shrink QFP, 100-Leads, Body 14x14mm, Pitch 0.5mm, IPC Medium Density)
footprint PRQP0100KA-A_L (Shrink QFP, 100-Leads, Body 14x14mm, Pitch 0.5mm, IPC High Density)
footprint PRQP0100KA-A_M (Shrink QFP, 100-Leads, Body 14x14mm, Pitch 0.5mm, IPC Low Density)
part A pins: 1 PE5/D5 (io), 2 PE6/D6 (io), 3 PE7/D7 (io), 4 PD0/D8 (io), 5 PD1/D9 (io), 6 PD2/D10 (io), 7 PD3/D11 (io), 8 PD4/D12 (io), 9 PD5/D13 (io), 10 PD6/D14 (io), 11 PD7/D15 (io), 13 PC0/A0 (io), 15 PC1/A1 (io), 16 PC2/A2 (io), 17 PC3/A3 (io), 18 PC4/A4 (io), 19 PC5/A5 (io), 20 PC6/A6 (io), 21 PC7/A7 (io), 22 PB0/A8 (io), 23 PB1/A9 (io), 24 PB2/A10 (io), 25 PB3/A11 (io), 26 PB4/A12 (io), 27 PB5/A13 (io), 28 PB6/A14 (io), 29 PB7/A15 (io), 30 PA0/A16 (io), 31 PA1/A17 (io), 32 PA2/A18 (io), 33 PA3/A19 (io), 34 P10/TIOCA0/A20 (io), 35 P11/TIOCB0/A21 (io), 36 P12/TIOCC0/TCLKA/A22 (io), 37 P13/TIOCD0/TCLKB/A23 (io), 38 P14/TIOCA1/~{IRQ0} (io), 39 P15/TIOCB1/TCLKC (io), 40 P16/TIOCA2/~{IRQ1} (io), 41 P17/TIOCB2/TCLKD (io), 43 P97 (io), 44 P96 (io), 45 P47/AN7 (io), 46 P46/AN6 (io), 47 P45/AN5 (io), 48 P44/AN4 (io), 49 P43/AN3 (io), 50 P42/AN2 (io), 51 P41/AN1 (io), 52 P40/AN0 (io), 53 VREF (in), 55 MD0 (in), 56 MD1 (in), 57 OSC2 (in), 58 OSC1 (in), 59 ~{RES} (in), 60 NMI (in), 61 ~{STBY} (in), 63 XTAL (in), 65 EXTAL (in), 66 FWE (in), 67 MD2 (in), 68 PF7/F (io), 69 PF6/~{AS} (io), 70 PF5/~{RD} (io), 71 PF4/~{HWR} (io), 72 PF3/~{LWR}/~{ADTRG}/~{IRQ3} (io), 73 PF2/~{WAIT} (io), 74 PF1/~{BACK}/BUZZ (io), 75 PF0/~{BREQ}/~{IRQ2} (io), 76 P30/TXD0 (io), 77 P31/RXD0 (io), 78 P32/SCK0/~{IRQ4} (io), 79 P33/TXD1 (io), 80 P34/RXD1 (io), 81 P35/SCK1/~{IRQ5} (io), 82 P36 (io), 83 P77/TXD3 (io), 84 P76/RXD3 (io), 85 P75/SCK3 (io), 86 P74/~{MRES} (io), 87 P73/TMO1/~{CS7} (io), 88 P72/TMO0/~{CS6} (io), 89 P71/~{CS5} (io), 90 P70/TMRI01/TMCI01/~{CS4} (io), 91 PG0/~{IRQ6} (io), 92 PG1/~{CS3}/~{IRQ7} (io), 93 PG2/~{CS2} (io), 94 PG3/~{CS1} (io), 95 PG4/~{CS0} (io), 96 PE0/D0 (io), 97 PE1/D1 (io), 98 PE2/D2 (io), 99 PE3/D3 (io), 100 PE4/D4 (io)
part B pins: 12 VCC (power), 14 VSS (power), 42 AVSS (power), 54 AVCC (power), 62 VCC (power), 64 VSS (power)

## HD6432223XXXTE
designator U?
Mask ROM H8S/2200 Series, 2227 Group MCU, 64K ROM, 4K RAM, TFP-100B Pkg; Published: 28-Aug-2009; DatasheetVersion: Rev.5.00, Aug-2006; PackageVersion: Sep-2005; PackageReference: PTQP0100KA-A; Publisher: Altium Limited; PackageDescription: 100-Pin Plastic Thin Quad Flat Pack, 14 x 14 x 1.0 mm Body, 0.5 mm Pitch; Code_JEITA: P-TQFP100-14x14-0.50; ComponentLink1Description: Manufacturer Link; ComponentLink1URL: http://sg.renesas.com/fmwk.jsp?cnt=h8s_family_landing.jsp&fp=/products/mpumcu/h8s_family/; ComponentLink2Description: Datasheet; ComponentLink2URL: http://documentation.renesas.com/eng/products/mpumcu/rej09b0054_h8s2239.pdf; ComponentLink3Description: Packaging Specification; ComponentLink3URL: http://sg.renesas.com/media/products/common_info/package/pdf/ic/code/ptqp0100ka_a.pdf
footprint PTQP0100KA-A_N (Thin QFP, 100-Leads, Body 14x14mm, Pitch 0.5mm, IPC Medium Density)
footprint PTQP0100KA-A_L (Thin QFP, 100-Leads, Body 14x14mm, Pitch 0.5mm, IPC High Density)
footprint PTQP0100KA-A_M (Thin QFP, 100-Leads, Body 14x14mm, Pitch 0.5mm, IPC Low Density)
part A pins: 1 PE5/D5 (io), 2 PE6/D6 (io), 3 PE7/D7 (io), 4 PD0/D8 (io), 5 PD1/D9 (io), 6 PD2/D10 (io), 7 PD3/D11 (io), 8 PD4/D12 (io), 9 PD5/D13 (io), 10 PD6/D14 (io), 11 PD7/D15 (io), 13 PC0/A0 (io), 15 PC1/A1 (io), 16 PC2/A2 (io), 17 PC3/A3 (io), 18 PC4/A4 (io), 19 PC5/A5 (io), 20 PC6/A6 (io), 21 PC7/A7 (io), 22 PB0/A8 (io), 23 PB1/A9 (io), 24 PB2/A10 (io), 25 PB3/A11 (io), 26 PB4/A12 (io), 27 PB5/A13 (io), 28 PB6/A14 (io), 29 PB7/A15 (io), 30 PA0/A16 (io), 31 PA1/A17 (io), 32 PA2/A18 (io), 33 PA3/A19 (io), 34 P10/TIOCA0/A20 (io), 35 P11/TIOCB0/A21 (io), 36 P12/TIOCC0/TCLKA/A22 (io), 37 P13/TIOCD0/TCLKB/A23 (io), 38 P14/TIOCA1/~{IRQ0} (io), 39 P15/TIOCB1/TCLKC (io), 40 P16/TIOCA2/~{IRQ1} (io), 41 P17/TIOCB2/TCLKD (io), 43 P97 (io), 44 P96 (io), 45 P47/AN7 (io), 46 P46/AN6 (io), 47 P45/AN5 (io), 48 P44/AN4 (io), 49 P43/AN3 (io), 50 P42/AN2 (io), 51 P41/AN1 (io), 52 P40/AN0 (io), 53 VREF (in), 55 MD0 (in), 56 MD1 (in), 57 OSC2 (in), 58 OSC1 (in), 59 ~{RES} (in), 60 NMI (in), 61 ~{STBY} (in), 63 XTAL (in), 65 EXTAL (in), 66 FWE (in), 67 MD2 (in), 68 PF7/F (io), 69 PF6/~{AS} (io), 70 PF5/~{RD} (io), 71 PF4/~{HWR} (io), 72 PF3/~{LWR}/~{ADTRG}/~{IRQ3} (io), 73 PF2/~{WAIT} (io), 74 PF1/~{BACK}/BUZZ (io), 75 PF0/~{BREQ}/~{IRQ2} (io), 76 P30/TXD0 (io), 77 P31/RXD0 (io), 78 P32/SCK0/~{IRQ4} (io), 79 P33/TXD1 (io), 80 P34/RXD1 (io), 81 P35/SCK1/~{IRQ5} (io), 82 P36 (io), 83 P77/TXD3 (io), 84 P76/RXD3 (io), 85 P75/SCK3 (io), 86 P74/~{MRES} (io), 87 P73/TMO1/~{CS7} (io), 88 P72/TMO0/~{CS6} (io), 89 P71/~{CS5} (io), 90 P70/TMRI01/TMCI01/~{CS4} (io), 91 PG0/~{IRQ6} (io), 92 PG1/~{CS3}/~{IRQ7} (io), 93 PG2/~{CS2} (io), 94 PG3/~{CS1} (io), 95 PG4/~{CS0} (io), 96 PE0/D0 (io), 97 PE1/D1 (io), 98 PE2/D2 (io), 99 PE3/D3 (io), 100 PE4/D4 (io)
part B pins: 12 VCC (power), 14 VSS (power), 42 AVSS (power), 54 AVCC (power), 62 VCC (power), 64 VSS (power)

## HD6432223XXXTF
designator U?
Mask ROM H8S/2200 Series, 2227 Group MCU, 64K ROM, 4K RAM, TFP-100G Pkg; Published: 28-Aug-2009; DatasheetVersion: Rev.5.00, Aug-2006; PackageVersion: Sep-2005; PackageReference: PTQP0100LC-A; Publisher: Altium Limited; PackageDescription: 100-Pin Plastic Thin QFP, 12 x 12 x 1.0 mm Body, 0.4 mm Pitch; Code_JEITA: P-TQFP100-12x12-0.40; ComponentLink1Description: Manufacturer Link; ComponentLink1URL: http://sg.renesas.com/fmwk.jsp?cnt=h8s_family_landing.jsp&fp=/products/mpumcu/h8s_family/; ComponentLink2Description: Datasheet; ComponentLink2URL: http://documentation.renesas.com/eng/products/mpumcu/rej09b0054_h8s2239.pdf; ComponentLink3Description: Packaging Specification; ComponentLink3URL: http://sg.renesas.com/media/products/common_info/package/pdf/ic/code/ptqp0100lc_a.pdf
footprint PTQP0100LC-A_N (Thin QFP, 100-Leads, Body 12x12mm, Pitch 0.4mm, IPC Medium Density)
footprint PTQP0100LC-A_L (Thin QFP, 100-Leads, Body 12x12mm, Pitch 0.4mm, IPC High Density)
footprint PTQP0100LC-A_M (Thin QFP, 100-Leads, Body 12x12mm, Pitch 0.4mm, IPC Low Density)
part A pins: 1 PE5/D5 (io), 2 PE6/D6 (io), 3 PE7/D7 (io), 4 PD0/D8 (io), 5 PD1/D9 (io), 6 PD2/D10 (io), 7 PD3/D11 (io), 8 PD4/D12 (io), 9 PD5/D13 (io), 10 PD6/D14 (io), 11 PD7/D15 (io), 13 PC0/A0 (io), 15 PC1/A1 (io), 16 PC2/A2 (io), 17 PC3/A3 (io), 18 PC4/A4 (io), 19 PC5/A5 (io), 20 PC6/A6 (io), 21 PC7/A7 (io), 22 PB0/A8 (io), 23 PB1/A9 (io), 24 PB2/A10 (io), 25 PB3/A11 (io), 26 PB4/A12 (io), 27 PB5/A13 (io), 28 PB6/A14 (io), 29 PB7/A15 (io), 30 PA0/A16 (io), 31 PA1/A17 (io), 32 PA2/A18 (io), 33 PA3/A19 (io), 34 P10/TIOCA0/A20 (io), 35 P11/TIOCB0/A21 (io), 36 P12/TIOCC0/TCLKA/A22 (io), 37 P13/TIOCD0/TCLKB/A23 (io), 38 P14/TIOCA1/~{IRQ0} (io), 39 P15/TIOCB1/TCLKC (io), 40 P16/TIOCA2/~{IRQ1} (io), 41 P17/TIOCB2/TCLKD (io), 43 P97 (io), 44 P96 (io), 45 P47/AN7 (io), 46 P46/AN6 (io), 47 P45/AN5 (io), 48 P44/AN4 (io), 49 P43/AN3 (io), 50 P42/AN2 (io), 51 P41/AN1 (io), 52 P40/AN0 (io), 53 VREF (in), 55 MD0 (in), 56 MD1 (in), 57 OSC2 (in), 58 OSC1 (in), 59 ~{RES} (in), 60 NMI (in), 61 ~{STBY} (in), 63 XTAL (in), 65 EXTAL (in), 66 FWE (in), 67 MD2 (in), 68 PF7/F (io), 69 PF6/~{AS} (io), 70 PF5/~{RD} (io), 71 PF4/~{HWR} (io), 72 PF3/~{LWR}/~{ADTRG}/~{IRQ3} (io), 73 PF2/~{WAIT} (io), 74 PF1/~{BACK}/BUZZ (io), 75 PF0/~{BREQ}/~{IRQ2} (io), 76 P30/TXD0 (io), 77 P31/RXD0 (io), 78 P32/SCK0/~{IRQ4} (io), 79 P33/TXD1 (io), 80 P34/RXD1 (io), 81 P35/SCK1/~{IRQ5} (io), 82 P36 (io), 83 P77/TXD3 (io), 84 P76/RXD3 (io), 85 P75/SCK3 (io), 86 P74/~{MRES} (io), 87 P73/TMO1/~{CS7} (io), 88 P72/TMO0/~{CS6} (io), 89 P71/~{CS5} (io), 90 P70/TMRI01/TMCI01/~{CS4} (io), 91 PG0/~{IRQ6} (io), 92 PG1/~{CS3}/~{IRQ7} (io), 93 PG2/~{CS2} (io), 94 PG3/~{CS1} (io), 95 PG4/~{CS0} (io), 96 PE0/D0 (io), 97 PE1/D1 (io), 98 PE2/D2 (io), 99 PE3/D3 (io), 100 PE4/D4 (io)
part B pins: 12 VCC (power), 14 VSS (power), 42 AVSS (power), 54 AVCC (power), 62 VCC (power), 64 VSS (power)

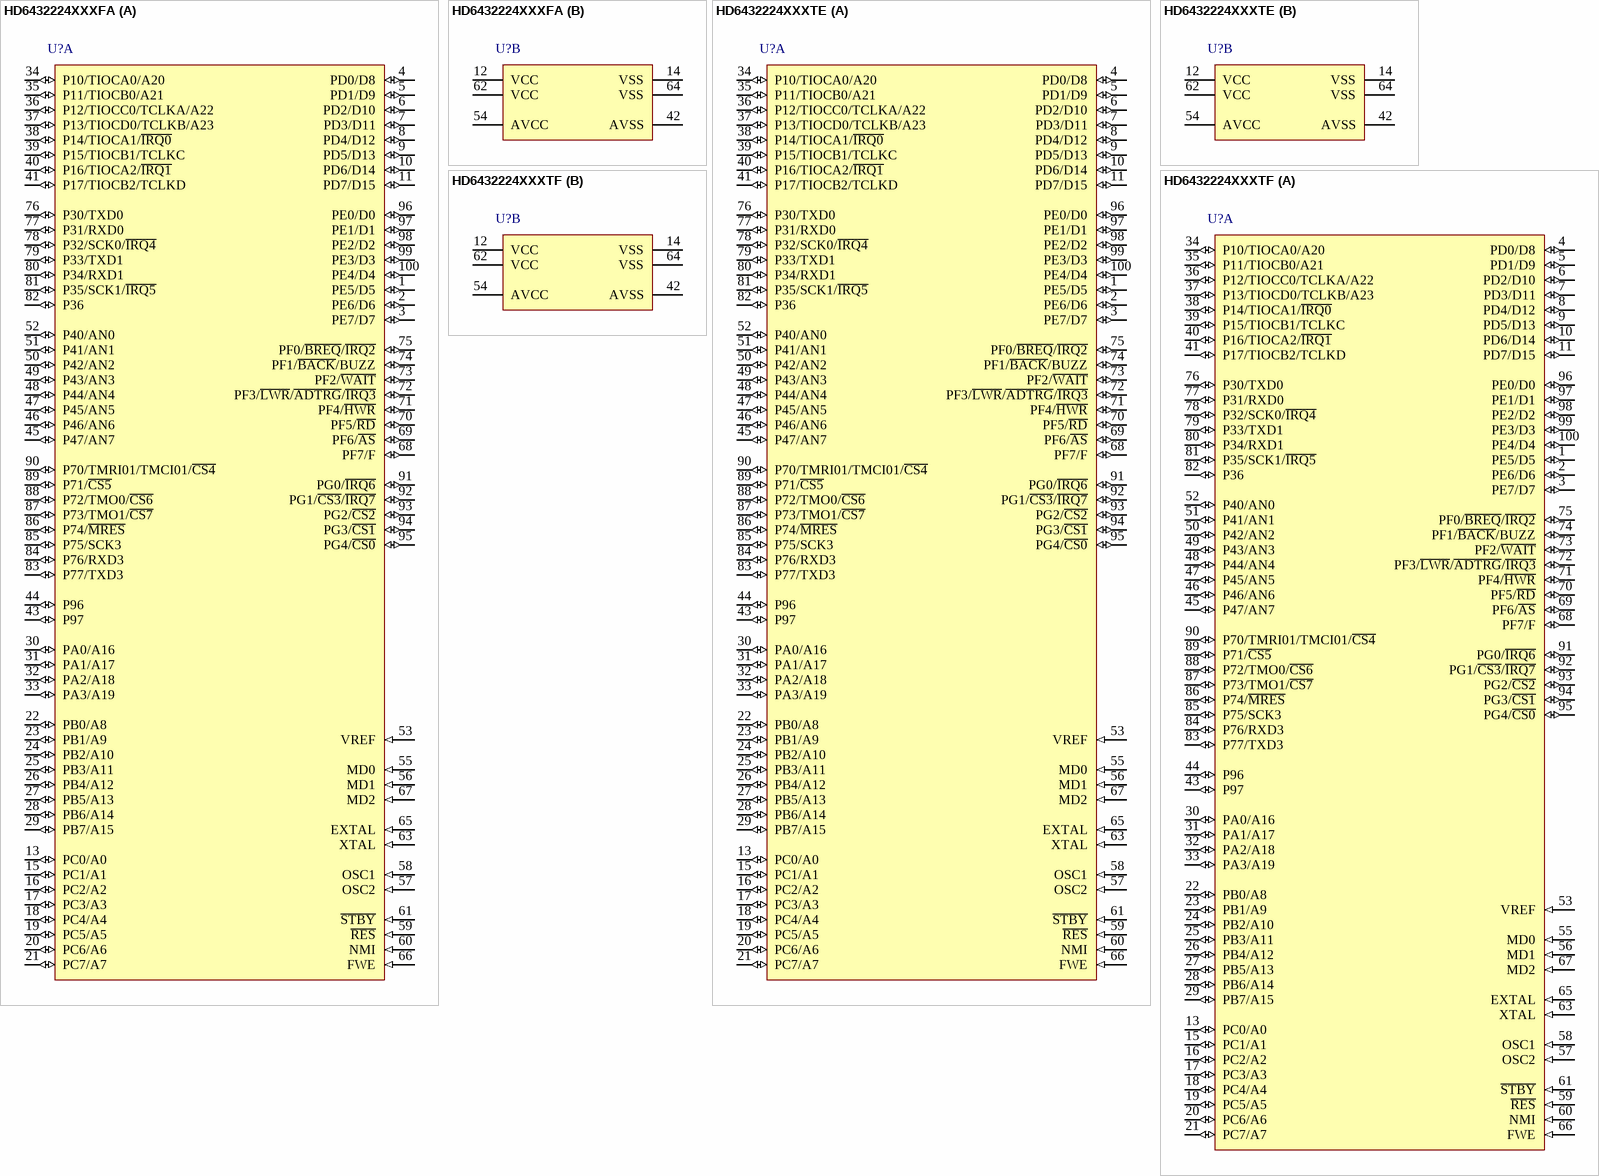
[diagram p130: symbols HD6432224XXXFA to HD6432224XXXTF]

## HD6432224XXXFA
designator U?
Mask ROM H8S/2200 Series, 2227 Group MCU, 96K ROM, 4K RAM, FP-100B Pkg; Published: 28-Aug-2009; DatasheetVersion: Rev.5.00, Aug-2006; PackageVersion: Sep-2009; PackageReference: PRQP0100KA-A; Publisher: Altium Limited; PackageDescription: 100-Pin Plastic Quad Flat Pack, 14 x 14 x 2.7 mm Body, 0.5 mm Pitch; Code_JEITA: P-QFP100-14x14-0.50; ComponentLink1Description: Manufacturer Link; ComponentLink1URL: http://sg.renesas.com/fmwk.jsp?cnt=h8s_family_landing.jsp&fp=/products/mpumcu/h8s_family/; ComponentLink2Description: Datasheet; ComponentLink2URL: http://documentation.renesas.com/eng/products/mpumcu/rej09b0054_h8s2239.pdf; ComponentLink3Description: Packaging Specification; ComponentLink3URL: http://sg.renesas.com/media/products/common_info/package/pdf/ic/code/prqp0100ka_a.pdf
footprint PRQP0100KA-A_N (Shrink QFP, 100-Leads, Body 14x14mm, Pitch 0.5mm, IPC Medium Density)
footprint PRQP0100KA-A_L (Shrink QFP, 100-Leads, Body 14x14mm, Pitch 0.5mm, IPC High Density)
footprint PRQP0100KA-A_M (Shrink QFP, 100-Leads, Body 14x14mm, Pitch 0.5mm, IPC Low Density)
part A pins: 1 PE5/D5 (io), 2 PE6/D6 (io), 3 PE7/D7 (io), 4 PD0/D8 (io), 5 PD1/D9 (io), 6 PD2/D10 (io), 7 PD3/D11 (io), 8 PD4/D12 (io), 9 PD5/D13 (io), 10 PD6/D14 (io), 11 PD7/D15 (io), 13 PC0/A0 (io), 15 PC1/A1 (io), 16 PC2/A2 (io), 17 PC3/A3 (io), 18 PC4/A4 (io), 19 PC5/A5 (io), 20 PC6/A6 (io), 21 PC7/A7 (io), 22 PB0/A8 (io), 23 PB1/A9 (io), 24 PB2/A10 (io), 25 PB3/A11 (io), 26 PB4/A12 (io), 27 PB5/A13 (io), 28 PB6/A14 (io), 29 PB7/A15 (io), 30 PA0/A16 (io), 31 PA1/A17 (io), 32 PA2/A18 (io), 33 PA3/A19 (io), 34 P10/TIOCA0/A20 (io), 35 P11/TIOCB0/A21 (io), 36 P12/TIOCC0/TCLKA/A22 (io), 37 P13/TIOCD0/TCLKB/A23 (io), 38 P14/TIOCA1/~{IRQ0} (io), 39 P15/TIOCB1/TCLKC (io), 40 P16/TIOCA2/~{IRQ1} (io), 41 P17/TIOCB2/TCLKD (io), 43 P97 (io), 44 P96 (io), 45 P47/AN7 (io), 46 P46/AN6 (io), 47 P45/AN5 (io), 48 P44/AN4 (io), 49 P43/AN3 (io), 50 P42/AN2 (io), 51 P41/AN1 (io), 52 P40/AN0 (io), 53 VREF (in), 55 MD0 (in), 56 MD1 (in), 57 OSC2 (in), 58 OSC1 (in), 59 ~{RES} (in), 60 NMI (in), 61 ~{STBY} (in), 63 XTAL (in), 65 EXTAL (in), 66 FWE (in), 67 MD2 (in), 68 PF7/F (io), 69 PF6/~{AS} (io), 70 PF5/~{RD} (io), 71 PF4/~{HWR} (io), 72 PF3/~{LWR}/~{ADTRG}/~{IRQ3} (io), 73 PF2/~{WAIT} (io), 74 PF1/~{BACK}/BUZZ (io), 75 PF0/~{BREQ}/~{IRQ2} (io), 76 P30/TXD0 (io), 77 P31/RXD0 (io), 78 P32/SCK0/~{IRQ4} (io), 79 P33/TXD1 (io), 80 P34/RXD1 (io), 81 P35/SCK1/~{IRQ5} (io), 82 P36 (io), 83 P77/TXD3 (io), 84 P76/RXD3 (io), 85 P75/SCK3 (io), 86 P74/~{MRES} (io), 87 P73/TMO1/~{CS7} (io), 88 P72/TMO0/~{CS6} (io), 89 P71/~{CS5} (io), 90 P70/TMRI01/TMCI01/~{CS4} (io), 91 PG0/~{IRQ6} (io), 92 PG1/~{CS3}/~{IRQ7} (io), 93 PG2/~{CS2} (io), 94 PG3/~{CS1} (io), 95 PG4/~{CS0} (io), 96 PE0/D0 (io), 97 PE1/D1 (io), 98 PE2/D2 (io), 99 PE3/D3 (io), 100 PE4/D4 (io)
part B pins: 12 VCC (power), 14 VSS (power), 42 AVSS (power), 54 AVCC (power), 62 VCC (power), 64 VSS (power)

## HD6432224XXXTE
designator U?
Mask ROM H8S/2200 Series, 2227 Group MCU, 96K ROM, 4K RAM, TFP-100B Pkg; Published: 28-Aug-2009; DatasheetVersion: Rev.5.00, Aug-2006; PackageVersion: Sep-2005; PackageReference: PTQP0100KA-A; Publisher: Altium Limited; PackageDescription: 100-Pin Plastic Thin Quad Flat Pack, 14 x 14 x 1.0 mm Body, 0.5 mm Pitch; Code_JEITA: P-TQFP100-14x14-0.50; ComponentLink1Description: Manufacturer Link; ComponentLink1URL: http://sg.renesas.com/fmwk.jsp?cnt=h8s_family_landing.jsp&fp=/products/mpumcu/h8s_family/; ComponentLink2Description: Datasheet; ComponentLink2URL: http://documentation.renesas.com/eng/products/mpumcu/rej09b0054_h8s2239.pdf; ComponentLink3Description: Packaging Specification; ComponentLink3URL: http://sg.renesas.com/media/products/common_info/package/pdf/ic/code/ptqp0100ka_a.pdf
footprint PTQP0100KA-A_N (Thin QFP, 100-Leads, Body 14x14mm, Pitch 0.5mm, IPC Medium Density)
footprint PTQP0100KA-A_L (Thin QFP, 100-Leads, Body 14x14mm, Pitch 0.5mm, IPC High Density)
footprint PTQP0100KA-A_M (Thin QFP, 100-Leads, Body 14x14mm, Pitch 0.5mm, IPC Low Density)
part A pins: 1 PE5/D5 (io), 2 PE6/D6 (io), 3 PE7/D7 (io), 4 PD0/D8 (io), 5 PD1/D9 (io), 6 PD2/D10 (io), 7 PD3/D11 (io), 8 PD4/D12 (io), 9 PD5/D13 (io), 10 PD6/D14 (io), 11 PD7/D15 (io), 13 PC0/A0 (io), 15 PC1/A1 (io), 16 PC2/A2 (io), 17 PC3/A3 (io), 18 PC4/A4 (io), 19 PC5/A5 (io), 20 PC6/A6 (io), 21 PC7/A7 (io), 22 PB0/A8 (io), 23 PB1/A9 (io), 24 PB2/A10 (io), 25 PB3/A11 (io), 26 PB4/A12 (io), 27 PB5/A13 (io), 28 PB6/A14 (io), 29 PB7/A15 (io), 30 PA0/A16 (io), 31 PA1/A17 (io), 32 PA2/A18 (io), 33 PA3/A19 (io), 34 P10/TIOCA0/A20 (io), 35 P11/TIOCB0/A21 (io), 36 P12/TIOCC0/TCLKA/A22 (io), 37 P13/TIOCD0/TCLKB/A23 (io), 38 P14/TIOCA1/~{IRQ0} (io), 39 P15/TIOCB1/TCLKC (io), 40 P16/TIOCA2/~{IRQ1} (io), 41 P17/TIOCB2/TCLKD (io), 43 P97 (io), 44 P96 (io), 45 P47/AN7 (io), 46 P46/AN6 (io), 47 P45/AN5 (io), 48 P44/AN4 (io), 49 P43/AN3 (io), 50 P42/AN2 (io), 51 P41/AN1 (io), 52 P40/AN0 (io), 53 VREF (in), 55 MD0 (in), 56 MD1 (in), 57 OSC2 (in), 58 OSC1 (in), 59 ~{RES} (in), 60 NMI (in), 61 ~{STBY} (in), 63 XTAL (in), 65 EXTAL (in), 66 FWE (in), 67 MD2 (in), 68 PF7/F (io), 69 PF6/~{AS} (io), 70 PF5/~{RD} (io), 71 PF4/~{HWR} (io), 72 PF3/~{LWR}/~{ADTRG}/~{IRQ3} (io), 73 PF2/~{WAIT} (io), 74 PF1/~{BACK}/BUZZ (io), 75 PF0/~{BREQ}/~{IRQ2} (io), 76 P30/TXD0 (io), 77 P31/RXD0 (io), 78 P32/SCK0/~{IRQ4} (io), 79 P33/TXD1 (io), 80 P34/RXD1 (io), 81 P35/SCK1/~{IRQ5} (io), 82 P36 (io), 83 P77/TXD3 (io), 84 P76/RXD3 (io), 85 P75/SCK3 (io), 86 P74/~{MRES} (io), 87 P73/TMO1/~{CS7} (io), 88 P72/TMO0/~{CS6} (io), 89 P71/~{CS5} (io), 90 P70/TMRI01/TMCI01/~{CS4} (io), 91 PG0/~{IRQ6} (io), 92 PG1/~{CS3}/~{IRQ7} (io), 93 PG2/~{CS2} (io), 94 PG3/~{CS1} (io), 95 PG4/~{CS0} (io), 96 PE0/D0 (io), 97 PE1/D1 (io), 98 PE2/D2 (io), 99 PE3/D3 (io), 100 PE4/D4 (io)
part B pins: 12 VCC (power), 14 VSS (power), 42 AVSS (power), 54 AVCC (power), 62 VCC (power), 64 VSS (power)

## HD6432224XXXTF
designator U?
Mask ROM H8S/2200 Series, 2227 Group MCU, 96K ROM, 4K RAM, TFP-100G Pkg; Published: 28-Aug-2009; DatasheetVersion: Rev.5.00, Aug-2006; PackageVersion: Sep-2005; PackageReference: PTQP0100LC-A; Publisher: Altium Limited; PackageDescription: 100-Pin Plastic Thin QFP, 12 x 12 x 1.0 mm Body, 0.4 mm Pitch; Code_JEITA: P-TQFP100-12x12-0.40; ComponentLink1Description: Manufacturer Link; ComponentLink1URL: http://sg.renesas.com/fmwk.jsp?cnt=h8s_family_landing.jsp&fp=/products/mpumcu/h8s_family/; ComponentLink2Description: Datasheet; ComponentLink2URL: http://documentation.renesas.com/eng/products/mpumcu/rej09b0054_h8s2239.pdf; ComponentLink3Description: Packaging Specification; ComponentLink3URL: http://sg.renesas.com/media/products/common_info/package/pdf/ic/code/ptqp0100lc_a.pdf
footprint PTQP0100LC-A_N (Thin QFP, 100-Leads, Body 12x12mm, Pitch 0.4mm, IPC Medium Density)
footprint PTQP0100LC-A_L (Thin QFP, 100-Leads, Body 12x12mm, Pitch 0.4mm, IPC High Density)
footprint PTQP0100LC-A_M (Thin QFP, 100-Leads, Body 12x12mm, Pitch 0.4mm, IPC Low Density)
part A pins: 1 PE5/D5 (io), 2 PE6/D6 (io), 3 PE7/D7 (io), 4 PD0/D8 (io), 5 PD1/D9 (io), 6 PD2/D10 (io), 7 PD3/D11 (io), 8 PD4/D12 (io), 9 PD5/D13 (io), 10 PD6/D14 (io), 11 PD7/D15 (io), 13 PC0/A0 (io), 15 PC1/A1 (io), 16 PC2/A2 (io), 17 PC3/A3 (io), 18 PC4/A4 (io), 19 PC5/A5 (io), 20 PC6/A6 (io), 21 PC7/A7 (io), 22 PB0/A8 (io), 23 PB1/A9 (io), 24 PB2/A10 (io), 25 PB3/A11 (io), 26 PB4/A12 (io), 27 PB5/A13 (io), 28 PB6/A14 (io), 29 PB7/A15 (io), 30 PA0/A16 (io), 31 PA1/A17 (io), 32 PA2/A18 (io), 33 PA3/A19 (io), 34 P10/TIOCA0/A20 (io), 35 P11/TIOCB0/A21 (io), 36 P12/TIOCC0/TCLKA/A22 (io), 37 P13/TIOCD0/TCLKB/A23 (io), 38 P14/TIOCA1/~{IRQ0} (io), 39 P15/TIOCB1/TCLKC (io), 40 P16/TIOCA2/~{IRQ1} (io), 41 P17/TIOCB2/TCLKD (io), 43 P97 (io), 44 P96 (io), 45 P47/AN7 (io), 46 P46/AN6 (io), 47 P45/AN5 (io), 48 P44/AN4 (io), 49 P43/AN3 (io), 50 P42/AN2 (io), 51 P41/AN1 (io), 52 P40/AN0 (io), 53 VREF (in), 55 MD0 (in), 56 MD1 (in), 57 OSC2 (in), 58 OSC1 (in), 59 ~{RES} (in), 60 NMI (in), 61 ~{STBY} (in), 63 XTAL (in), 65 EXTAL (in), 66 FWE (in), 67 MD2 (in), 68 PF7/F (io), 69 PF6/~{AS} (io), 70 PF5/~{RD} (io), 71 PF4/~{HWR} (io), 72 PF3/~{LWR}/~{ADTRG}/~{IRQ3} (io), 73 PF2/~{WAIT} (io), 74 PF1/~{BACK}/BUZZ (io), 75 PF0/~{BREQ}/~{IRQ2} (io), 76 P30/TXD0 (io), 77 P31/RXD0 (io), 78 P32/SCK0/~{IRQ4} (io), 79 P33/TXD1 (io), 80 P34/RXD1 (io), 81 P35/SCK1/~{IRQ5} (io), 82 P36 (io), 83 P77/TXD3 (io), 84 P76/RXD3 (io), 85 P75/SCK3 (io), 86 P74/~{MRES} (io), 87 P73/TMO1/~{CS7} (io), 88 P72/TMO0/~{CS6} (io), 89 P71/~{CS5} (io), 90 P70/TMRI01/TMCI01/~{CS4} (io), 91 PG0/~{IRQ6} (io), 92 PG1/~{CS3}/~{IRQ7} (io), 93 PG2/~{CS2} (io), 94 PG3/~{CS1} (io), 95 PG4/~{CS0} (io), 96 PE0/D0 (io), 97 PE1/D1 (io), 98 PE2/D2 (io), 99 PE3/D3 (io), 100 PE4/D4 (io)
part B pins: 12 VCC (power), 14 VSS (power), 42 AVSS (power), 54 AVCC (power), 62 VCC (power), 64 VSS (power)

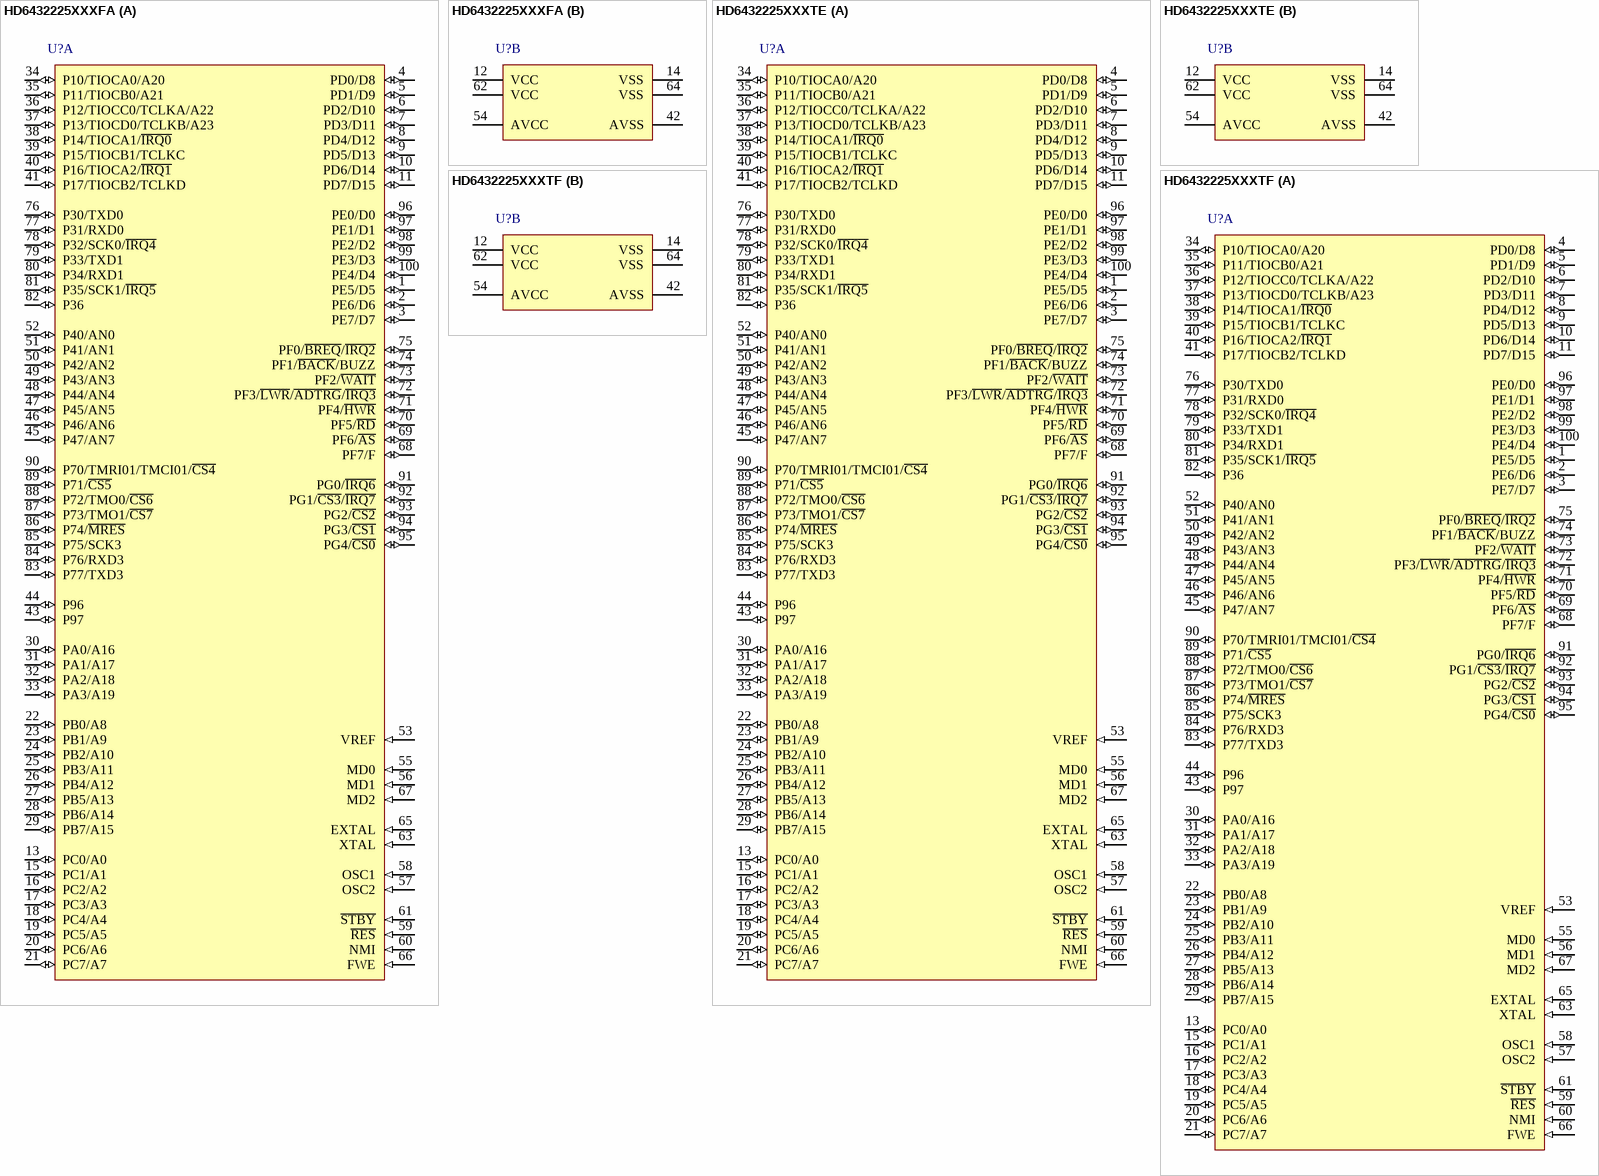
[diagram p131: symbols HD6432225XXXFA to HD6432225XXXTF]

## HD6432225XXXFA
designator U?
Mask ROM H8S/2200 Series, 2227 Group MCU, 128K ROM, 4K RAM, FP-100B Pkg; Published: 28-Aug-2009; DatasheetVersion: Rev.5.00, Aug-2006; PackageVersion: Sep-2009; PackageReference: PRQP0100KA-A; Publisher: Altium Limited; PackageDescription: 100-Pin Plastic Quad Flat Pack, 14 x 14 x 2.7 mm Body, 0.5 mm Pitch; Code_JEITA: P-QFP100-14x14-0.50; ComponentLink1Description: Manufacturer Link; ComponentLink1URL: http://sg.renesas.com/fmwk.jsp?cnt=h8s_family_landing.jsp&fp=/products/mpumcu/h8s_family/; ComponentLink2Description: Datasheet; ComponentLink2URL: http://documentation.renesas.com/eng/products/mpumcu/rej09b0054_h8s2239.pdf; ComponentLink3Description: Packaging Specification; ComponentLink3URL: http://sg.renesas.com/media/products/common_info/package/pdf/ic/code/prqp0100ka_a.pdf
footprint PRQP0100KA-A_N (Shrink QFP, 100-Leads, Body 14x14mm, Pitch 0.5mm, IPC Medium Density)
footprint PRQP0100KA-A_L (Shrink QFP, 100-Leads, Body 14x14mm, Pitch 0.5mm, IPC High Density)
footprint PRQP0100KA-A_M (Shrink QFP, 100-Leads, Body 14x14mm, Pitch 0.5mm, IPC Low Density)
part A pins: 1 PE5/D5 (io), 2 PE6/D6 (io), 3 PE7/D7 (io), 4 PD0/D8 (io), 5 PD1/D9 (io), 6 PD2/D10 (io), 7 PD3/D11 (io), 8 PD4/D12 (io), 9 PD5/D13 (io), 10 PD6/D14 (io), 11 PD7/D15 (io), 13 PC0/A0 (io), 15 PC1/A1 (io), 16 PC2/A2 (io), 17 PC3/A3 (io), 18 PC4/A4 (io), 19 PC5/A5 (io), 20 PC6/A6 (io), 21 PC7/A7 (io), 22 PB0/A8 (io), 23 PB1/A9 (io), 24 PB2/A10 (io), 25 PB3/A11 (io), 26 PB4/A12 (io), 27 PB5/A13 (io), 28 PB6/A14 (io), 29 PB7/A15 (io), 30 PA0/A16 (io), 31 PA1/A17 (io), 32 PA2/A18 (io), 33 PA3/A19 (io), 34 P10/TIOCA0/A20 (io), 35 P11/TIOCB0/A21 (io), 36 P12/TIOCC0/TCLKA/A22 (io), 37 P13/TIOCD0/TCLKB/A23 (io), 38 P14/TIOCA1/~{IRQ0} (io), 39 P15/TIOCB1/TCLKC (io), 40 P16/TIOCA2/~{IRQ1} (io), 41 P17/TIOCB2/TCLKD (io), 43 P97 (io), 44 P96 (io), 45 P47/AN7 (io), 46 P46/AN6 (io), 47 P45/AN5 (io), 48 P44/AN4 (io), 49 P43/AN3 (io), 50 P42/AN2 (io), 51 P41/AN1 (io), 52 P40/AN0 (io), 53 VREF (in), 55 MD0 (in), 56 MD1 (in), 57 OSC2 (in), 58 OSC1 (in), 59 ~{RES} (in), 60 NMI (in), 61 ~{STBY} (in), 63 XTAL (in), 65 EXTAL (in), 66 FWE (in), 67 MD2 (in), 68 PF7/F (io), 69 PF6/~{AS} (io), 70 PF5/~{RD} (io), 71 PF4/~{HWR} (io), 72 PF3/~{LWR}/~{ADTRG}/~{IRQ3} (io), 73 PF2/~{WAIT} (io), 74 PF1/~{BACK}/BUZZ (io), 75 PF0/~{BREQ}/~{IRQ2} (io), 76 P30/TXD0 (io), 77 P31/RXD0 (io), 78 P32/SCK0/~{IRQ4} (io), 79 P33/TXD1 (io), 80 P34/RXD1 (io), 81 P35/SCK1/~{IRQ5} (io), 82 P36 (io), 83 P77/TXD3 (io), 84 P76/RXD3 (io), 85 P75/SCK3 (io), 86 P74/~{MRES} (io), 87 P73/TMO1/~{CS7} (io), 88 P72/TMO0/~{CS6} (io), 89 P71/~{CS5} (io), 90 P70/TMRI01/TMCI01/~{CS4} (io), 91 PG0/~{IRQ6} (io), 92 PG1/~{CS3}/~{IRQ7} (io), 93 PG2/~{CS2} (io), 94 PG3/~{CS1} (io), 95 PG4/~{CS0} (io), 96 PE0/D0 (io), 97 PE1/D1 (io), 98 PE2/D2 (io), 99 PE3/D3 (io), 100 PE4/D4 (io)
part B pins: 12 VCC (power), 14 VSS (power), 42 AVSS (power), 54 AVCC (power), 62 VCC (power), 64 VSS (power)

## HD6432225XXXTE
designator U?
Mask ROM H8S/2200 Series, 2227 Group MCU, 128K ROM, 4K RAM, TFP-100B Pkg; Published: 28-Aug-2009; DatasheetVersion: Rev.5.00, Aug-2006; PackageVersion: Sep-2005; PackageReference: PTQP0100KA-A; Publisher: Altium Limited; PackageDescription: 100-Pin Plastic Thin Quad Flat Pack, 14 x 14 x 1.0 mm Body, 0.5 mm Pitch; Code_JEITA: P-TQFP100-14x14-0.50; ComponentLink1Description: Manufacturer Link; ComponentLink1URL: http://sg.renesas.com/fmwk.jsp?cnt=h8s_family_landing.jsp&fp=/products/mpumcu/h8s_family/; ComponentLink2Description: Datasheet; ComponentLink2URL: http://documentation.renesas.com/eng/products/mpumcu/rej09b0054_h8s2239.pdf; ComponentLink3Description: Packaging Specification; ComponentLink3URL: http://sg.renesas.com/media/products/common_info/package/pdf/ic/code/ptqp0100ka_a.pdf
footprint PTQP0100KA-A_N (Thin QFP, 100-Leads, Body 14x14mm, Pitch 0.5mm, IPC Medium Density)
footprint PTQP0100KA-A_L (Thin QFP, 100-Leads, Body 14x14mm, Pitch 0.5mm, IPC High Density)
footprint PTQP0100KA-A_M (Thin QFP, 100-Leads, Body 14x14mm, Pitch 0.5mm, IPC Low Density)
part A pins: 1 PE5/D5 (io), 2 PE6/D6 (io), 3 PE7/D7 (io), 4 PD0/D8 (io), 5 PD1/D9 (io), 6 PD2/D10 (io), 7 PD3/D11 (io), 8 PD4/D12 (io), 9 PD5/D13 (io), 10 PD6/D14 (io), 11 PD7/D15 (io), 13 PC0/A0 (io), 15 PC1/A1 (io), 16 PC2/A2 (io), 17 PC3/A3 (io), 18 PC4/A4 (io), 19 PC5/A5 (io), 20 PC6/A6 (io), 21 PC7/A7 (io), 22 PB0/A8 (io), 23 PB1/A9 (io), 24 PB2/A10 (io), 25 PB3/A11 (io), 26 PB4/A12 (io), 27 PB5/A13 (io), 28 PB6/A14 (io), 29 PB7/A15 (io), 30 PA0/A16 (io), 31 PA1/A17 (io), 32 PA2/A18 (io), 33 PA3/A19 (io), 34 P10/TIOCA0/A20 (io), 35 P11/TIOCB0/A21 (io), 36 P12/TIOCC0/TCLKA/A22 (io), 37 P13/TIOCD0/TCLKB/A23 (io), 38 P14/TIOCA1/~{IRQ0} (io), 39 P15/TIOCB1/TCLKC (io), 40 P16/TIOCA2/~{IRQ1} (io), 41 P17/TIOCB2/TCLKD (io), 43 P97 (io), 44 P96 (io), 45 P47/AN7 (io), 46 P46/AN6 (io), 47 P45/AN5 (io), 48 P44/AN4 (io), 49 P43/AN3 (io), 50 P42/AN2 (io), 51 P41/AN1 (io), 52 P40/AN0 (io), 53 VREF (in), 55 MD0 (in), 56 MD1 (in), 57 OSC2 (in), 58 OSC1 (in), 59 ~{RES} (in), 60 NMI (in), 61 ~{STBY} (in), 63 XTAL (in), 65 EXTAL (in), 66 FWE (in), 67 MD2 (in), 68 PF7/F (io), 69 PF6/~{AS} (io), 70 PF5/~{RD} (io), 71 PF4/~{HWR} (io), 72 PF3/~{LWR}/~{ADTRG}/~{IRQ3} (io), 73 PF2/~{WAIT} (io), 74 PF1/~{BACK}/BUZZ (io), 75 PF0/~{BREQ}/~{IRQ2} (io), 76 P30/TXD0 (io), 77 P31/RXD0 (io), 78 P32/SCK0/~{IRQ4} (io), 79 P33/TXD1 (io), 80 P34/RXD1 (io), 81 P35/SCK1/~{IRQ5} (io), 82 P36 (io), 83 P77/TXD3 (io), 84 P76/RXD3 (io), 85 P75/SCK3 (io), 86 P74/~{MRES} (io), 87 P73/TMO1/~{CS7} (io), 88 P72/TMO0/~{CS6} (io), 89 P71/~{CS5} (io), 90 P70/TMRI01/TMCI01/~{CS4} (io), 91 PG0/~{IRQ6} (io), 92 PG1/~{CS3}/~{IRQ7} (io), 93 PG2/~{CS2} (io), 94 PG3/~{CS1} (io), 95 PG4/~{CS0} (io), 96 PE0/D0 (io), 97 PE1/D1 (io), 98 PE2/D2 (io), 99 PE3/D3 (io), 100 PE4/D4 (io)
part B pins: 12 VCC (power), 14 VSS (power), 42 AVSS (power), 54 AVCC (power), 62 VCC (power), 64 VSS (power)